# Altium schematic symbol library AliPadash.SchLib: 1117 symbols (part 3 of 6)
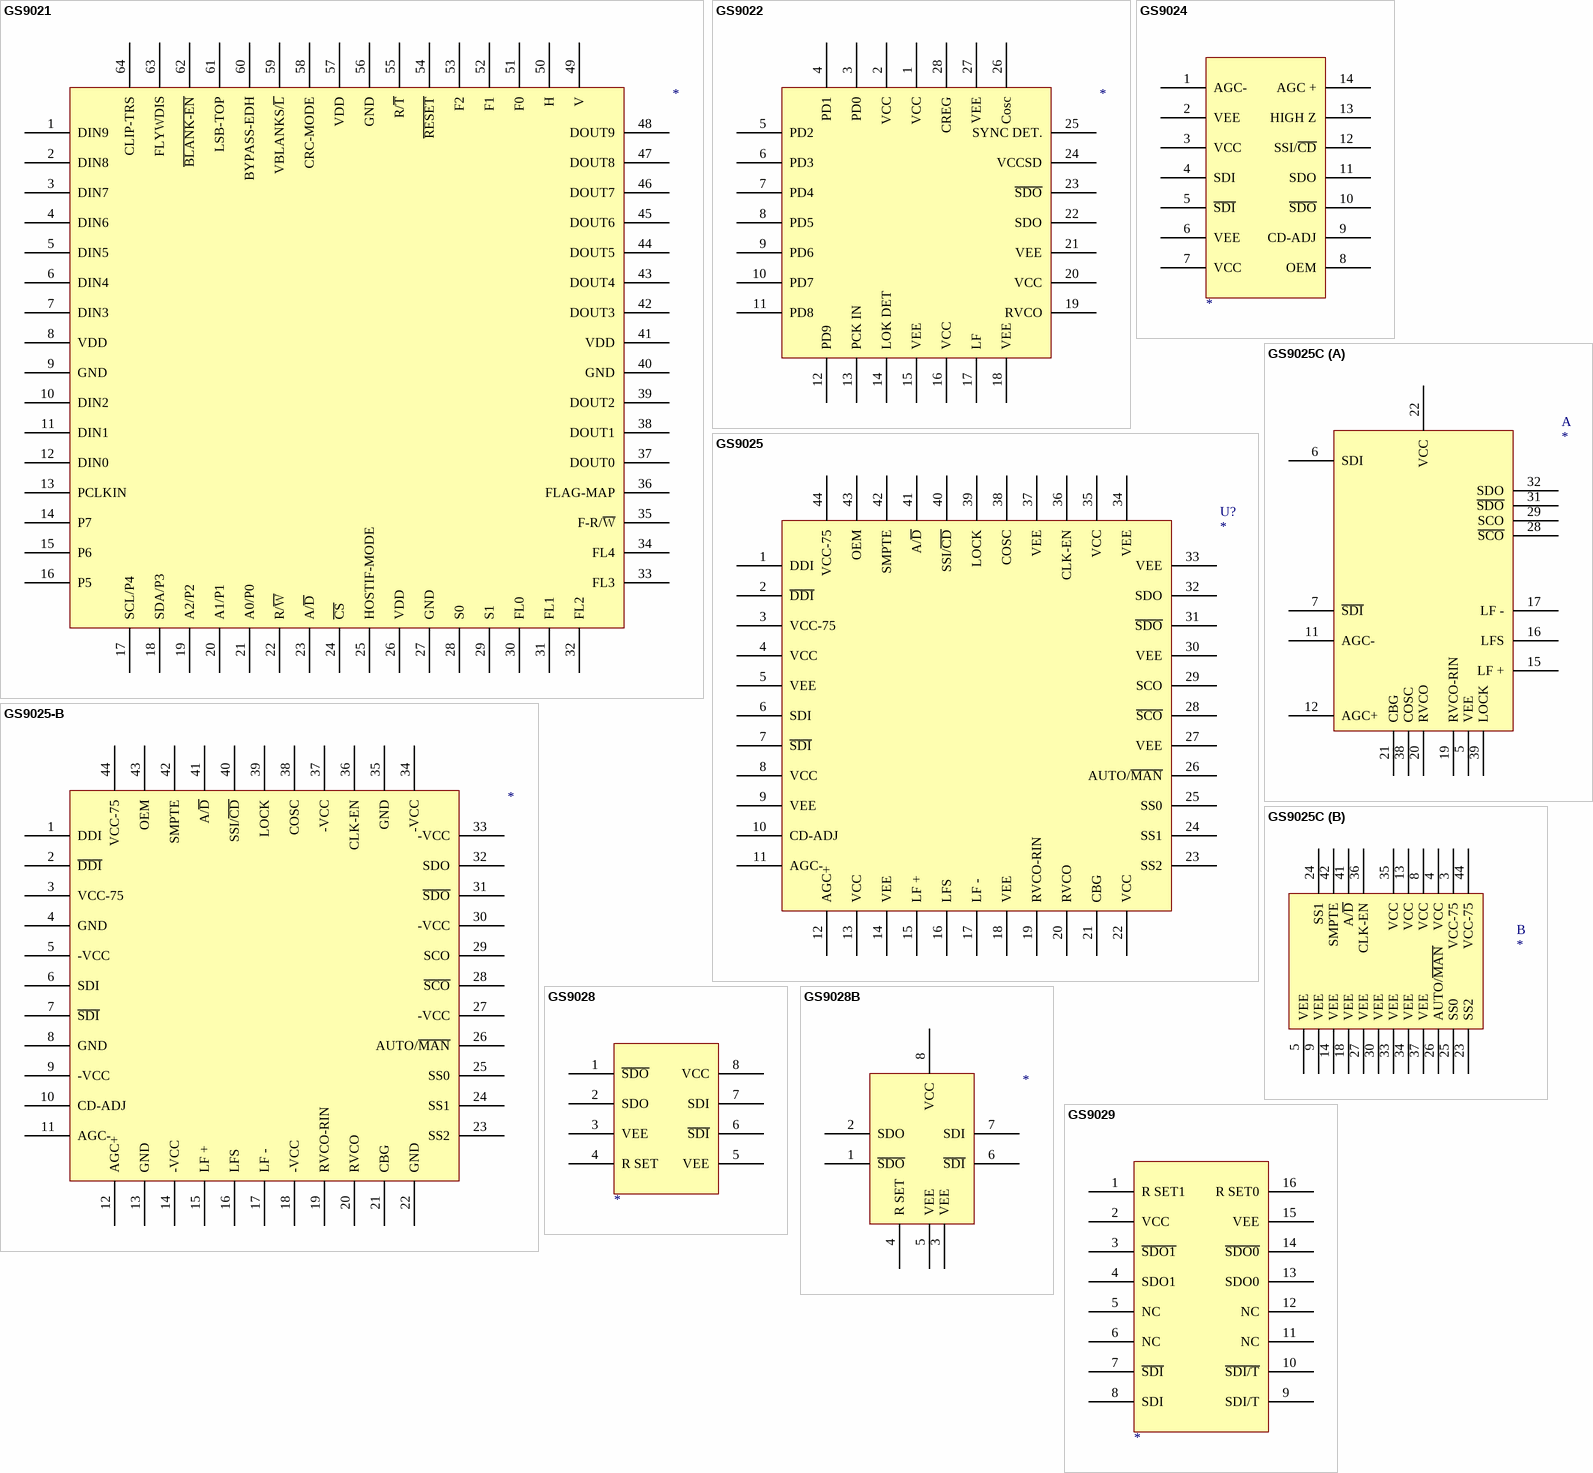
[diagram p85: symbols GS9021 to GS9029]

## GS9021
designator ?
U?
footprint LQFP64
pins: 1 DIN9, 2 DIN8, 3 DIN7, 4 DIN6, 5 DIN5, 6 DIN4, 7 DIN3, 8 VDD (power), 9 GND (power), 10 DIN2, 11 DIN1, 12 DIN0, 13 PCLKIN, 14 P7, 15 P6, 16 P5, 17 SCL/P4, 18 SDA/P3, 19 A2/P2, 20 A1/P1, 21 A0/P0, 22 R/~{W}, 23 A/~{D}, 24 ~{CS}, 25 HOSTIF-MODE, 26 VDD (power), 27 GND (power), 28 S0, 29 S1, 30 FL0, 31 FL1, 32 FL2, 33 FL3, 34 FL4, 35 F-R/~{W}, 36 FLAG-MAP, 37 DOUT0, 38 DOUT1, 39 DOUT2, 40 GND (power), 41 VDD (power), 42 DOUT3, 43 DOUT4, 44 DOUT5, 45 DOUT6, 46 DOUT7, 47 DOUT8, 48 DOUT9, 49 V, 50 H, 51 F0, 52 F1, 53 F2, 54 ~{RESET}, 55 R/~{T}, 56 GND (power), 57 VDD (power), 58 CRC-MODE, 59 VBLANKS/~{L}, 60 BYPASS-EDH, 61 LSB-TOP, 62 ~{BLANK-EN}, 63 FLYWDIS, 64 CLIP-TRS

## GS9022
designator ?
U?
footprint PLCC28
pins: 1 VCC (power), 2 VCC (power), 3 PD0, 4 PD1, 5 PD2, 6 PD3, 7 PD4, 8 PD5, 9 PD6, 10 PD7, 11 PD8, 12 PD9, 13 PCK IN, 14 LOK DET, 15 VEE (power), 16 VCC (power), 17 LF, 18 VEE (power), 19 RVCO, 20 VCC (power), 21 VEE (power), 22 SDO, 23 ~{SDO}, 24 VCCSD, 25 SYNC DET., 26 Cosc, 27 VEE (power), 28 CREG

## GS9024
designator ?
U?
pins: 1 AGC-, 2 VEE, 3 VCC (power), 4 SDI, 5 ~{SDI}, 6 VEE, 7 VCC (power), 8 OEM, 9 CD-ADJ, 10 ~{SDO}, 11 SDO, 12 SSI/~{CD}, 13 HIGH Z, 14 AGC +

## GS9025
designator U?
footprint LQFP44
pins: 1 DDI, 2 ~{DDI}, 3 VCC-75, 4 VCC (power), 5 VEE (power), 6 SDI, 7 ~{SDI}, 8 VCC (power), 9 VEE (power), 10 CD-ADJ, 11 AGC-, 12 AGC+, 13 VCC (power), 14 VEE (power), 15 LF +, 16 LFS, 17 LF -, 18 VEE (power), 19 RVCO-RIN, 20 RVCO, 21 CBG, 22 VCC (power), 23 SS2, 24 SS1, 25 SS0, 26 AUTO/~{MAN}, 27 VEE (power), 28 ~{SCO}, 29 SCO, 30 VEE (power), 31 ~{SDO}, 32 SDO, 33 VEE (power), 34 VEE (power), 35 VCC (power), 36 CLK-EN, 37 VEE (power), 38 COSC, 39 LOCK, 40 SSI/~{CD}, 41 A/~{D}, 42 SMPTE, 43 OEM, 44 VCC-75

## GS9025-B
designator ?
pins: 1 DDI, 2 ~{DDI}, 3 VCC-75, 4 GND (power), 5 -VCC (power), 6 SDI, 7 ~{SDI}, 8 GND (power), 9 -VCC (power), 10 CD-ADJ, 11 AGC-, 12 AGC+, 13 GND (power), 14 -VCC (power), 15 LF +, 16 LFS, 17 LF -, 18 -VCC (power), 19 RVCO-RIN, 20 RVCO, 21 CBG, 22 GND (power), 23 SS2, 24 SS1, 25 SS0, 26 AUTO/~{MAN}, 27 -VCC (power), 28 ~{SCO}, 29 SCO, 30 -VCC (power), 31 ~{SDO}, 32 SDO, 33 -VCC (power), 34 -VCC (power), 35 GND (power), 36 CLK-EN, 37 -VCC (power), 38 COSC, 39 LOCK, 40 SSI/~{CD}, 41 A/~{D}, 42 SMPTE, 43 OEM, 44 VCC-75

## GS9025C
designator ?
part A pins: 5 VEE (power), 6 SDI, 7 ~{SDI}, 11 AGC-, 12 AGC+, 15 LF +, 16 LFS, 17 LF -, 19 RVCO-RIN, 20 RVCO, 21 CBG, 22 VCC (power), 28 ~{SCO}, 29 SCO, 31 ~{SDO}, 32 SDO, 38 COSC, 39 LOCK
part B pins: 3 VCC-75, 4 VCC (power), 5 VEE (power), 8 VCC (power), 9 VEE (power), 13 VCC (power), 14 VEE (power), 18 VEE (power), 23 SS2, 24 SS1, 25 SS0, 26 AUTO/~{MAN}, 27 VEE (power), 30 VEE (power), 33 VEE (power), 34 VEE (power), 35 VCC (power), 36 CLK-EN, 37 VEE (power), 41 A/~{D}, 42 SMPTE, 44 VCC-75

## GS9028
designator ?
U?
pins: 1 ~{SDO}, 2 SDO, 3 VEE (power), 4 R SET, 5 VEE (power), 6 ~{SDI}, 7 SDI, 8 VCC (power)

## GS9028B
designator ?
U?
pins: 1 ~{SDO}, 2 SDO, 3 VEE (power), 4 R SET, 5 VEE (power), 6 ~{SDI}, 7 SDI, 8 VCC (power)

## GS9029
designator ?
U?
pins: 1 R SET1, 2 VCC (power), 3 ~{SDO1}, 4 SDO1, 5 NC, 6 NC, 7 ~{SDI}, 8 SDI, 9 SDI/T, 10 ~{SDI/T}, 11 NC, 12 NC, 13 SDO0, 14 ~{SDO0}, 15 VEE (power), 16 R SET0

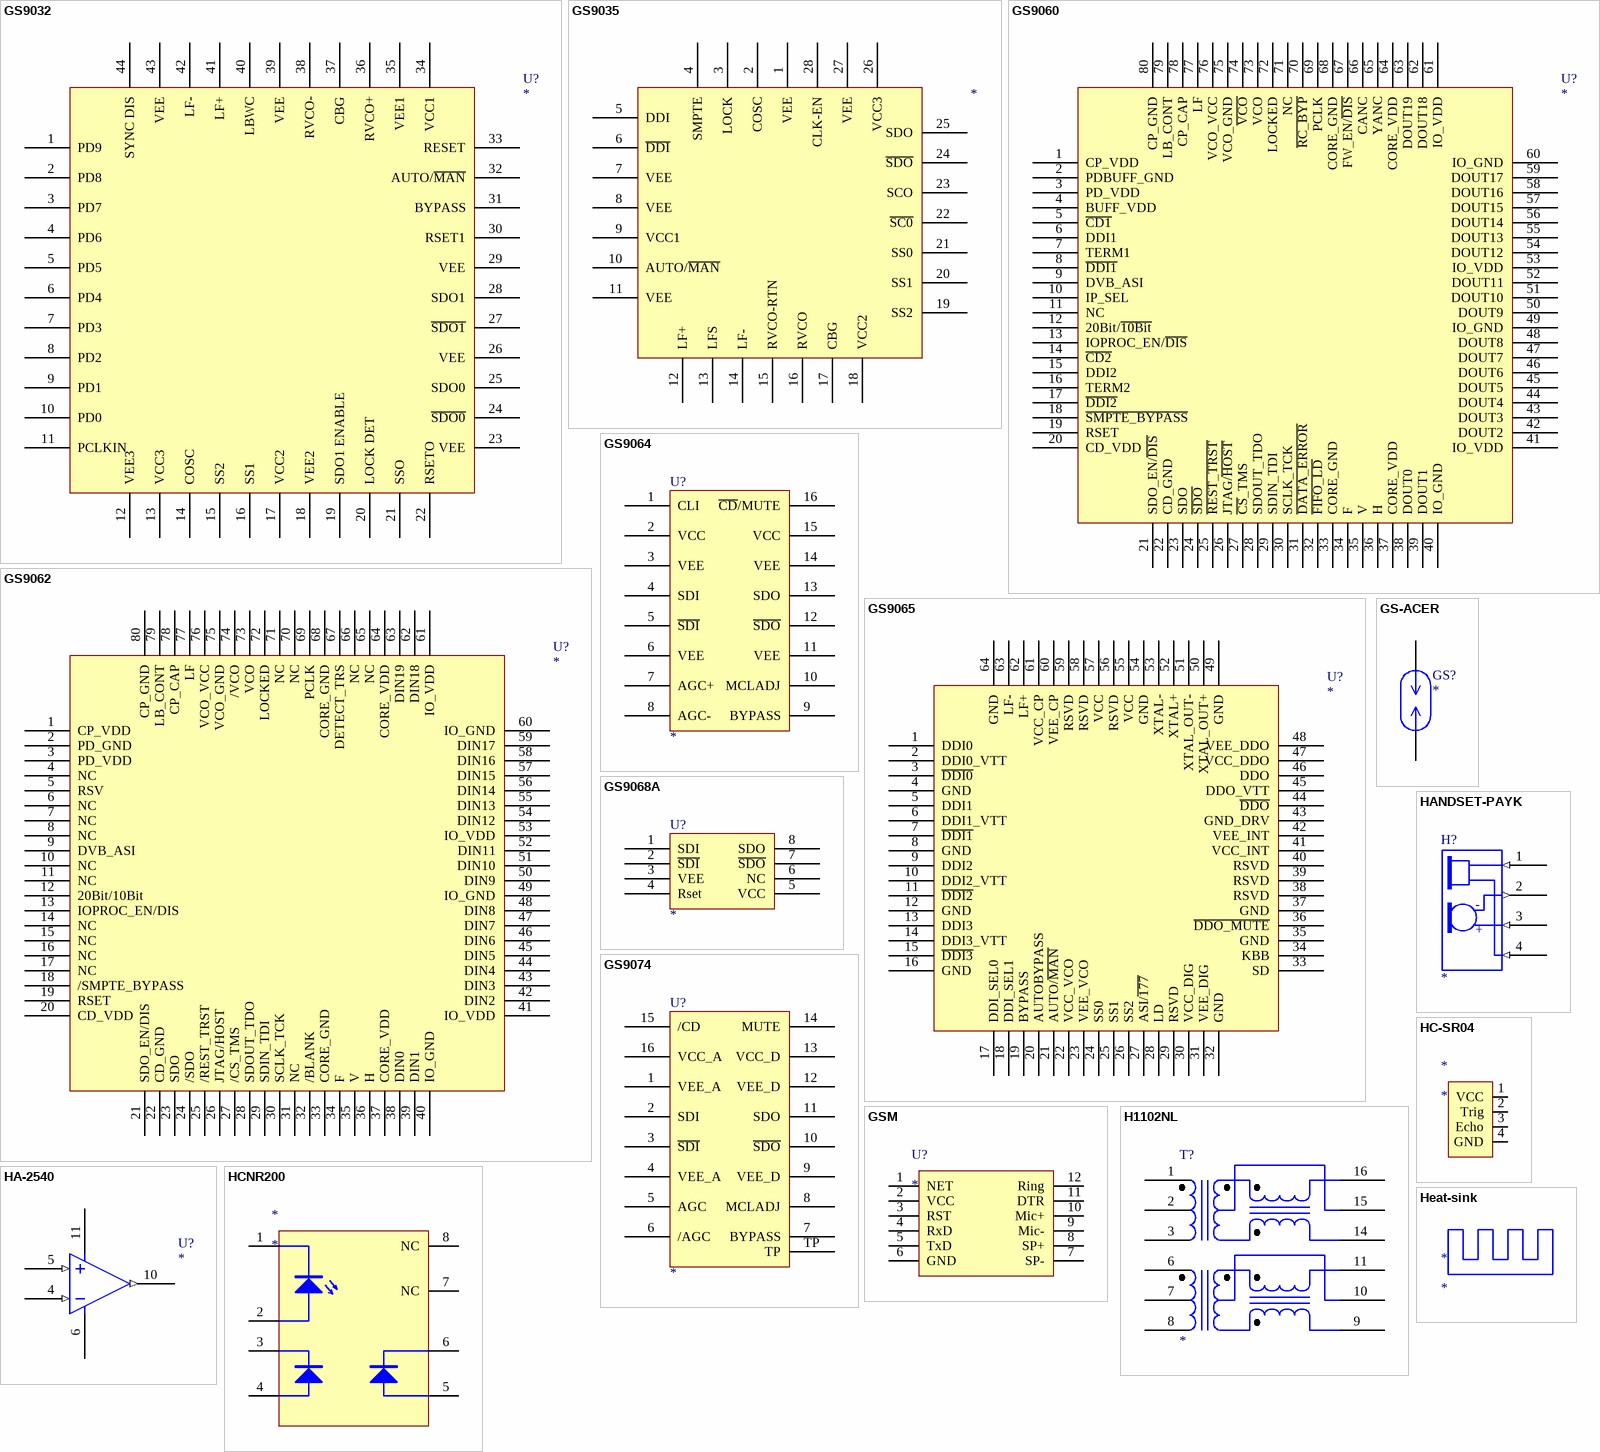
[diagram p29: symbols GS9032 to Heat-sink]

## GS9032
designator U?
footprint TQFP44
pins: 1 PD9, 2 PD8, 3 PD7, 4 PD6, 5 PD5, 6 PD4, 7 PD3, 8 PD2, 9 PD1, 10 PD0, 11 PCLKIN, 12 VEE3, 13 VCC3, 14 COSC, 15 SS2, 16 SS1, 17 VCC2 (power), 18 VEE2, 19 SDO1 ENABLE, 20 LOCK DET, 21 SSO, 22 RSETO, 23 VEE, 24 ~{SDO0}, 25 SDO0, 26 VEE, 27 ~{SDO1}, 28 SDO1, 29 VEE, 30 RSET1, 31 BYPASS, 32 AUTO/~{MAN}, 33 RESET, 34 VCC1 (power), 35 VEE1, 36 RVCO+, 37 CBG, 38 RVCO-, 39 VEE, 40 LBWC, 41 LF+, 42 LF-, 43 VEE, 44 SYNC DIS

## GS9035
designator ?
U?
pins: 1 VEE (power), 2 COSC, 3 LOCK, 4 SMPTE, 5 DDI, 6 ~{DDI}, 7 VEE (power), 8 VEE (power), 9 VCC1, 10 AUTO/~{MAN}, 11 VEE (power), 12 LF+, 13 LFS, 14 LF-, 15 RVCO-RTN, 16 RVCO, 17 CBG, 18 VCC2 (power), 19 SS2, 20 SS1, 21 SS0, 22 ~{SC0}, 23 SCO, 24 ~{SDO}, 25 SDO, 26 VCC3, 27 VEE (power), 28 CLK-EN

## GS9060
designator U?
footprint LQFP80B
pins: 1 CP_VDD, 2 PDBUFF_GND, 3 PD_VDD, 4 BUFF_VDD, 5 ~{CD1}, 6 DDI1, 7 TERM1, 8 ~{DDI1}, 9 DVB_ASI, 10 IP_SEL, 11 NC, 12 20Bit/~{10Bit}, 13 IOPROC_EN/~{DIS}, 14 ~{CD2}, 15 DDI2, 16 TERM2, 17 ~{DDI2}, 18 ~{SMPTE_BYPASS}, 19 RSET, 20 CD_VDD, 21 SDO_EN/~{DIS}, 22 CD_GND, 23 SDO, 24 ~{SDO}, 25 ~{REST_TRST}, 26 JTAG/~{HOST}, 27 ~{CS}_TMS, 28 SDOUT_TDO, 29 SDIN_TDI, 30 SCLK_TCK, 31 ~{DATA_ERROR}, 32 ~{FIFO_LD}, 33 CORE_GND, 34 F, 35 V, 36 H, 37 CORE_VDD, 38 DOUT0, 39 DOUT1, 40 IO_GND, 41 IO_VDD, 42 DOUT2, 43 DOUT3, 44 DOUT4, 45 DOUT5, 46 DOUT6, 47 DOUT7, 48 DOUT8, 49 IO_GND, 50 DOUT9, 51 DOUT10, 52 DOUT11, 53 IO_VDD, 54 DOUT12, 55 DOUT13, 56 DOUT14, 57 DOUT15, 58 DOUT16, 59 DOUT17, 60 IO_GND, 61 IO_VDD, 62 DOUT18, 63 DOUT19, 64 CORE_VDD, 65 YANC, 66 CANC, 67 FW_EN/~{DIS}, 68 CORE_GND, 69 PCLK, 70 ~{RC_BYP}, 71 NC, 72 LOCKED, 73 VCO, 74 ~{VCO}, 75 VCO_GND, 76 VCO_VCC, 77 LF, 78 CP_CAP, 79 LB_CONT, 80 CP_GND

## GS9062
designator U?
footprint LQFP80B
pins: 1 CP_VDD, 2 PD_GND, 3 PD_VDD, 4 NC, 5 RSV, 6 NC, 7 NC, 8 NC, 9 DVB_ASI, 10 NC, 11 NC, 12 20Bit/10Bit, 13 IOPROC_EN/DIS, 14 NC, 15 NC, 16 NC, 17 NC, 18 /SMPTE_BYPASS, 19 RSET, 20 CD_VDD, 21 SDO_EN/DIS, 22 CD_GND, 23 SDO, 24 /SDO, 25 /REST_TRST, 26 JTAG/HOST, 27 /CS_TMS, 28 SDOUT_TDO, 29 SDIN_TDI, 30 SCLK_TCK, 31 NC, 32 /BLANK, 33 CORE_GND, 34 F, 35 V, 36 H, 37 CORE_VDD, 38 DIN0, 39 DIN1, 40 IO_GND, 41 IO_VDD, 42 DIN2, 43 DIN3, 44 DIN4, 45 DIN5, 46 DIN6, 47 DIN7, 48 DIN8, 49 IO_GND, 50 DIN9, 51 DIN10, 52 DIN11, 53 IO_VDD, 54 DIN12, 55 DIN13, 56 DIN14, 57 DIN15, 58 DIN16, 59 DIN17, 60 IO_GND, 61 IO_VDD, 62 DIN18, 63 DIN19, 64 CORE_VDD, 65 NC, 66 NC, 67 DETECT_TRS, 68 CORE_GND, 69 PCLK, 70 NC, 71 NC, 72 LOCKED, 73 VCO, 74 /VCO, 75 VCO_GND, 76 VCO_VCC, 77 LF, 78 CP_CAP, 79 LB_CONT, 80 CP_GND

## GS9064
designator U?
footprint SO-16
pins: 1 CLI, 2 VCC, 3 VEE, 4 SDI, 5 ~{SDI}, 6 VEE, 7 AGC+, 8 AGC-, 9 BYPASS, 10 MCLADJ, 11 VEE, 12 ~{SDO}, 13 SDO, 14 VEE, 15 VCC, 16 ~{CD}/MUTE

## GS9065
designator U?
footprint ST-64B
pins: 1 DDI0, 2 DDI0_VTT, 3 ~{DDI0}, 4 GND, 5 DDI1, 6 DDI1_VTT, 7 ~{DDI1}, 8 GND, 9 DDI2, 10 DDI2_VTT, 11 ~{DDI2}, 12 GND, 13 DDI3, 14 DDI3_VTT, 15 ~{DDI3}, 16 GND, 17 DDI_SEL0, 18 DDI_SEL1, 19 BYPASS, 20 AUTOBYPASS, 21 AUTO/~{MAN}, 22 VCC_VCO, 23 VEE_VCO, 24 SS0, 25 SS1, 26 SS2, 27 ASI/~{177}, 28 LD, 29 RSVD, 30 VCC_DIG, 31 VEE_DIG, 32 GND, 33 SD, 34 KBB, 35 GND, 36 ~{DDO_MUTE}, 37 GND, 38 RSVD, 39 RSVD, 40 RSVD, 41 VCC_INT, 42 VEE_INT, 43 GND_DRV, 44 ~{DDO}, 45 DDO_VTT, 46 DDO, 47 VCC_DDO, 48 VEE_DDO, 49 GND, 50 XTAL_OUT+, 51 XTAL_OUT-, 52 XTAL+, 53 XTAL-, 54 GND, 55 VCC, 56 RSVD, 57 VCC, 58 RSVD, 59 RSVD, 60 VEE_CP, 61 VCC_CP, 62 LF+, 63 LF-, 64 GND

## GS9068A
designator U?
footprint SO-8
pins: 1 SDI, 2 ~{SDI}, 3 VEE, 4 Rset, 5 VCC, 6 NC, 7 ~{SDO}, 8 SDO

## GS9074
designator U?
footprint QFN16
pins: 1 VEE_A, 2 SDI, 3 ~{SDI}, 4 VEE_A, 5 AGC, 6 /AGC, 7 BYPASS, 8 MCLADJ, 9 VEE_D, 10 ~{SDO}, 11 SDO, 12 VEE_D, 13 VCC_D, 14 MUTE, 15 /CD, 16 VCC_A, TP

## GS-ACER
designator GS?
pins: 1, 2

## GSM
designator U?
pins: 1 NET, 2 VCC, 3 RST, 4 RxD, 5 TxD, 6 GND, 7 SP-, 8 SP+, 9 Mic-, 10 Mic+, 11 DTR, 12 Ring

## H1102NL
designator T?
footprint 10-100TRANS
pins: 1, 2, 3, 6, 7, 8, 9, 10, 11, 14, 15, 16

## HA-2540
designator U?
pins: 4 -IN (in), 5 +IN (in), 6 V-, 10 OUT (out), 11 V+

## HANDSET-PAYK
designator H?
pins: 1 SPK1 (in), 2 -MIC (out), 3 +MIC (in), 4 SPK2 (in)
text: -; +

## HC-SR04
designator *
pins: 1 VCC, 2 Trig, 3 Echo, 4 GND

## HCNR200
designator *
footprint so-8-big (Footprint not found)
pins: 1, 2, 3, 4, 5, 6, 7 NC, 8 NC

## Heat-sink
designator *

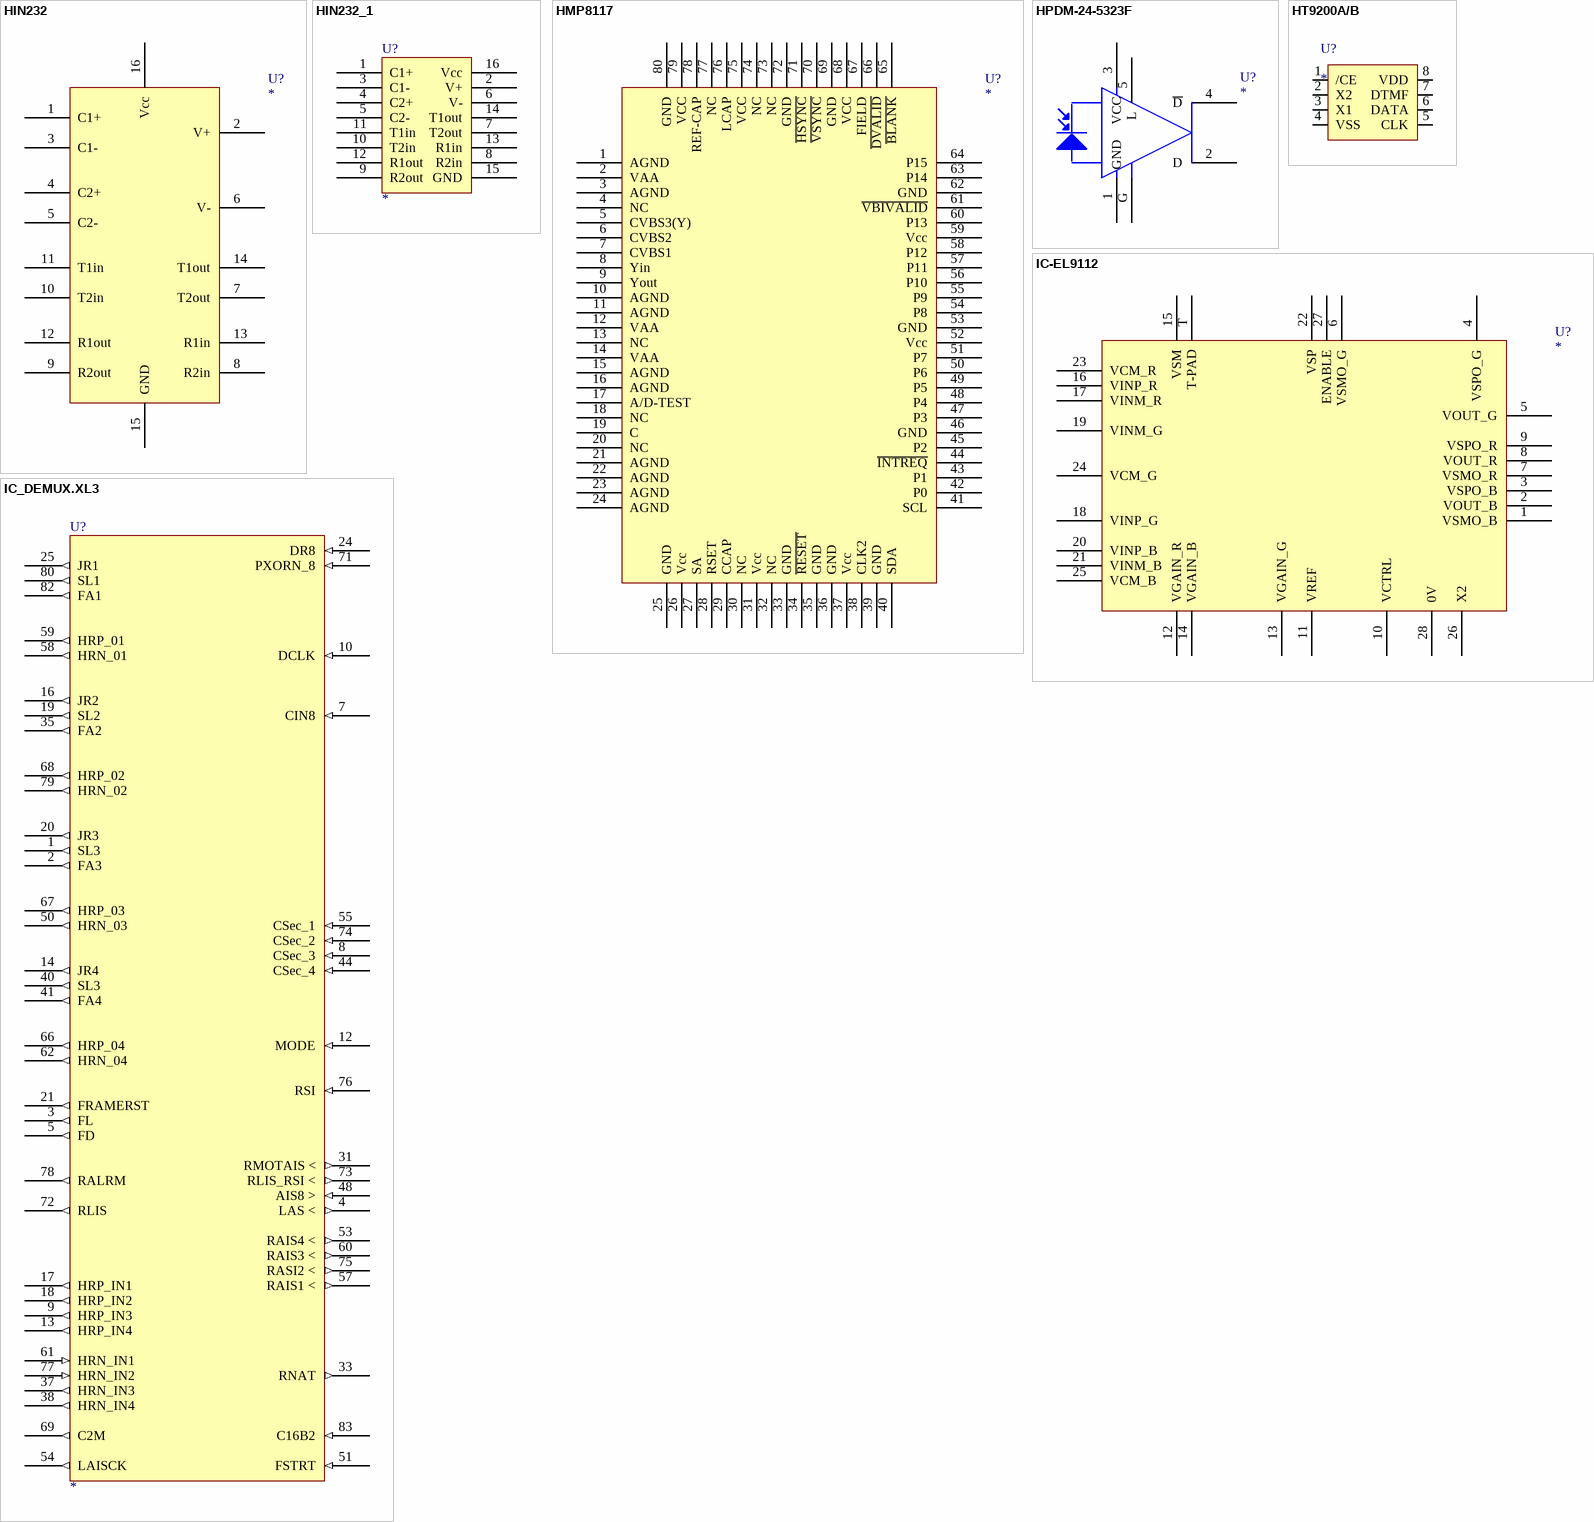
[diagram p30: symbols HIN232 to IC_DEMUX.XL3]

## HIN232
designator U?
footprint DIP16
pins: 1 C1+, 2 V+, 3 C1-, 4 C2+, 5 C2-, 6 V-, 7 T2out, 8 R2in, 9 R2out, 10 T2in, 11 T1in, 12 R1out, 13 R1in, 14 T1out, 15 GND, 16 Vcc

## HIN232_1
designator U?
footprint DIP16
pins: 1 C1+, 2 V+, 3 C1-, 4 C2+, 5 C2-, 6 V-, 7 T2out, 8 R2in, 9 R2out, 10 T2in, 11 T1in, 12 R1out, 13 R1in, 14 T1out, 15 GND, 16 Vcc

## HMP8117
designator U?
footprint MQFP80
pins: 1 AGND, 2 VAA, 3 AGND, 4 NC, 5 CVBS3(Y), 6 CVBS2, 7 CVBS1, 8 Yin, 9 Yout, 10 AGND, 11 AGND, 12 VAA, 13 NC, 14 VAA, 15 AGND, 16 AGND, 17 A/D-TEST, 18 NC, 19 C, 20 NC, 21 AGND, 22 AGND, 23 AGND, 24 AGND, 25 GND, 26 Vcc, 27 SA, 28 RSET, 29 CCAP, 30 NC, 31 Vcc, 32 NC, 33 GND, 34 ~{RESET}, 35 GND, 36 GND, 37 Vcc, 38 CLK2, 39 GND, 40 SDA, 41 SCL, 42 P0, 43 P1, 44 ~{INTREQ}, 45 P2, 46 GND, 47 P3, 48 P4, 49 P5, 50 P6, 51 P7, 52 Vcc, 53 GND, 54 P8, 55 P9, 56 P10, 57 P11, 58 P12, 59 Vcc, 60 P13, 61 ~{VBIVALID}, 62 GND, 63 P14, 64 P15, 65 ~{BLANK}, 66 ~{DVALID}, 67 FIELD, 68 VCC, 69 GND, 70 ~{VSYNC}, 71 ~{HSYNC}, 72 GND, 73 NC, 74 NC, 75 VCC, 76 LCAP, 77 NC, 78 REF-CAP, 79 VCC, 80 GND

## HPDM-24-5323F
designator U?
footprint LDHP3
pins: 1 GND, 2 D, 3 VCC, 4 ~{D}, 5 L, G

## HT9200A/B
designator U?
footprint DIP8-SMD
pins: 1 /CE, 2 X2, 3 X1, 4 VSS, 5 CLK, 6 DATA, 7 DTMF, 8 VDD

## IC-EL9112
designator U?
footprint QFN28
pins: 1 VSMO_B, 2 VOUT_B, 3 VSPO_B, 4 VSPO_G, 5 VOUT_G, 6 VSMO_G, 7 VSMO_R, 8 VOUT_R, 9 VSPO_R, 10 VCTRL, 11 VREF, 12 VGAIN_R, 13 VGAIN_G, 14 VGAIN_B, 15 VSM, 16 VINP_R, 17 VINM_R, 18 VINP_G, 19 VINM_G, 20 VINP_B, 21 VINM_B, 22 VSP, 23 VCM_R, 24 VCM_G, 25 VCM_B, 26 X2, 27 ENABLE, 28 0V, T T-PAD

## IC_DEMUX.XL3
designator U?
pins: 1 SL3 (out), 2 FA3 (out), 3 FL (out), 4 LAS < (out), 5 FD (out), 6 GND (power) hidden to GND, 7 CIN8 (in), 8 CSec_3 (in), 9 HRP_IN3 (out), 10 DCLK (in), 12 MODE (in), 13 HRP_IN4 (out), 14 JR4 (out), 16 JR2 (out), 17 HRP_IN1 (out), 18 HRP_IN2 (out), 19 SL2 (out), 20 JR3 (out), 21 FRAMERST (out), 22 VCC (power) hidden to VCC, 24 DR8 (in), 25 JR1 (out), 28 GND (power) hidden to GND, 31 RMOTAIS < (out), 33 RNAT (out), 35 FA2 (out), 37 HRN_IN3 (out), 38 HRN_IN4 (out), 40 SL3 (out), 41 FA4 (out), 43 VCC (power) hidden to VCC, 44 CSec_4 (in), 48 AIS8 > (in), 49 GND (power) hidden to GND, 50 HRN_03 (out), 51 FSTRT (in), 53 RAIS4 < (out), 54 LAISCK (out), 55 CSec_1 (in), 57 RAIS1 < (out), 58 HRN_01 (out), 59 HRP_01 (out), 60 RAIS3 < (out), 61 HRN_IN1 (in), 62 HRN_04 (out), 65 VCC (power) hidden to VCC, 66 HRP_04 (out), 67 HRP_03 (out), 68 HRP_02 (out), 69 C2M (out), 70 GND (power) hidden to GND, 71 PXORN_8 (in), 72 RLIS (out), 73 RLIS_RSI < (out), 74 CSec_2 (in), 75 RASI2 < (out), 76 RSI (in), 77 HRN_IN2 (in), 78 RALRM (out), 79 HRN_02 (out), 80 SL1 (out), 82 FA1 (out), 83 C16B2 (in), 84 VCC (power) hidden to VCC

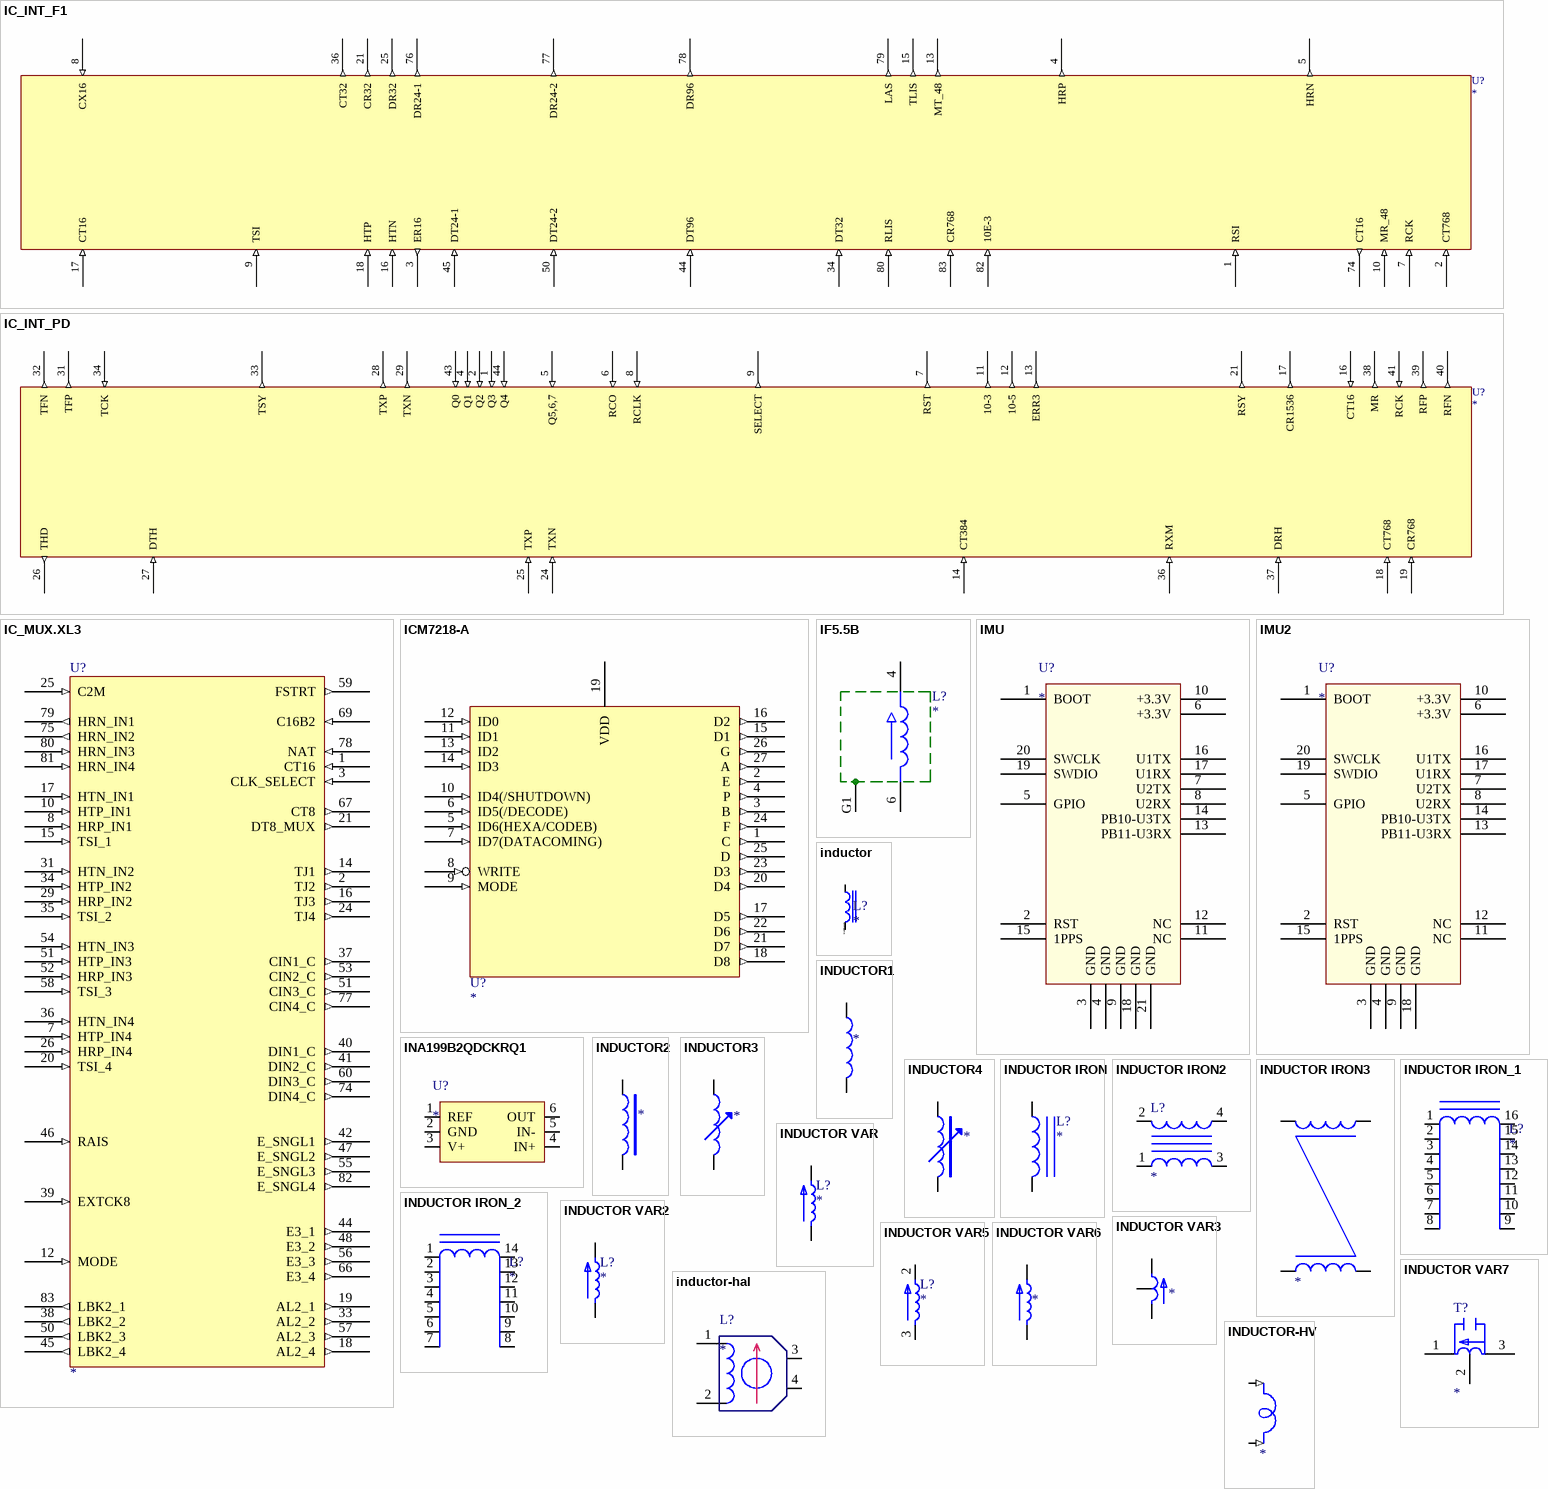
[diagram p31: symbols IC_INT_F1 to INDUCTOR-HV]

## IC_INT_F1
designator U?
pins: 1 RSI (in), 2 CT768 (in), 3 ER16 (out), 4 HRP (out), 5 HRN (out), 7 RCK (in), 8 CX16 (in), 9 TSI (in), 10 MR_48 (in), 13 MT_48 (out), 15 TLIS (out), 16 HTN (in), 17 CT16 (in), 18 HTP (in), 21 CR32 (out), 25 DR32 (out), 34 DT32 (in), 36 CT32 (out), 44 DT96 (in), 45 DT24-1 (in), 50 DT24-2 (in), 74 CT16 (out), 76 DR24-1 (out), 77 DR24-2 (out), 78 DR96 (out), 79 LAS (out), 80 RLIS (in), 82 10E-3 (in), 83 CR768 (in)

## IC_INT_PD
designator U?
pins: 1 Q3 (in), 2 Q2 (in), 4 Q1 (in), 5 Q5,6,7 (in), 6 RCO (in), 7 RST (out), 8 RCLK (in), 9 SELECT (out), 11 10-3 (out), 12 10-5 (out), 13 ERR3 (out), 14 CT384 (in), 16 CT16 (in), 17 CR1536 (out), 18 CT768 (in), 19 CR768 (in), 21 RSY (out), 24 TXN (in), 25 TXP (in), 26 THD (out), 27 DTH (in), 28 TXP (out), 29 TXN (out), 31 TFP (out), 32 TFN (out), 33 TSY (out), 34 TCK (in), 36 RXM (in), 37 DRH (in), 38 MR (out), 39 RFP (out), 40 RFN (out), 41 RCK (in), 43 Q0 (in), 44 Q4 (in)

## IC_MUX.XL3
designator U?
pins: 1 CT16 (in), 2 TJ2 (out), 3 CLK_SELECT (in), 6 GND (power) hidden to GND, 7 HTP_IN4 (in), 8 HRP_IN1 (in), 10 HTP_IN1 (in), 12 MODE (in), 14 TJ1 (out), 15 TSI_1 (in), 16 TJ3 (out), 17 HTN_IN1 (in), 18 AL2_4 (out), 19 AL2_1 (out), 20 TSI_4 (in), 21 DT8_MUX (out), 22 VCC (power) hidden to VCC, 24 TJ4 (out), 25 C2M (in), 26 HRP_IN4 (in), 28 GND (power) hidden to GND, 29 HRP_IN2 (in), 31 HTN_IN2 (in), 33 AL2_2 (out), 34 HTP_IN2 (in), 35 TSI_2 (in), 36 HTN_IN4 (in), 37 CIN1_C (out), 38 LBK2_2 (out), 39 EXTCK8 (in), 40 DIN1_C (out), 41 DIN2_C (out), 42 E_SNGL1 (out), 43 VCC (power) hidden to VCC, 44 E3_1 (out), 45 LBK2_4 (out), 46 RAIS (in), 47 E_SNGL2 (out), 48 E3_2 (out), 49 GND (power) hidden to GND, 50 LBK2_3 (out), 51 HTP_IN3 (in), 51 CIN3_C (out), 52 HRP_IN3 (in), 53 CIN2_C (out), 54 HTN_IN3 (in), 55 E_SNGL3 (out), 56 E3_3 (out), 57 AL2_3 (out), 58 TSI_3 (in), 59 FSTRT (out), 60 DIN3_C (out), 65 VCC (power) hidden to VCC, 66 E3_4 (out), 67 CT8 (out), 69 C16B2 (in), 70 GND (power) hidden to GND, 74 DIN4_C (out), 75 HRN_IN2 (out), 77 CIN4_C (out), 78 NAT (in), 79 HRN_IN1 (out), 80 HRN_IN3 (in), 81 HRN_IN4 (in), 82 E_SNGL4 (out), 83 LBK2_1 (out), 84 VCC (power) hidden to VCC

## ICM7218-A
designator U?
pins: 1 C (out), 2 E (out), 3 B (out), 4 P (out), 5 ID6(HEXA/CODEB) (in), 6 ID5(/DECODE) (in), 7 ID7(DATACOMING) (in), 8 WRITE (in), 9 MODE (in), 10 ID4(/SHUTDOWN) (in), 11 ID1 (in), 12 ID0 (in), 13 ID2 (in), 14 ID3 (in), 15 D1 (out), 16 D2 (out), 17 D5 (out), 18 D8 (out), 19 VDD, 20 D4 (out), 21 D7 (out), 22 D6 (out), 23 D3 (out), 24 F (out), 25 D (out), 26 G (out), 27 A (out), 28 VSS (power) hidden to VSS

## IF5.5B
designator L?
pins: 4, 6, G1 GND

## IMU
designator U?
pins: 1 BOOT, 2 RST, 3 GND, 4 GND, 5 GPIO, 6 +3.3V, 7 U2TX, 8 U2RX, 9 GND, 10 +3.3V, 11 NC, 12 NC, 13 PB11-U3RX, 14 PB10-U3TX, 15 1PPS, 16 U1TX, 17 U1RX, 18 GND, 19 SWDIO, 20 SWCLK, 21 GND

## IMU2
designator U?
pins: 1 BOOT, 2 RST, 3 GND, 4 GND, 5 GPIO, 6 +3.3V, 7 U2TX, 8 U2RX, 9 GND, 10 +3.3V, 11 NC, 12 NC, 13 PB11-U3RX, 14 PB10-U3TX, 15 1PPS, 16 U1TX, 17 U1RX, 18 GND, 19 SWDIO, 20 SWCLK

## INA199B2QDCKRQ1
designator U?
footprint SOT363
pins: 1 REF, 2 GND, 3 V+, 4 IN+, 5 IN-, 6 OUT

## inductor
designator L?
footprint AXIAL0.3
footprint AXIAL0.4
footprint BEAD
pins: 1, 2
text: @DesignPCB

## INDUCTOR1
designator ?
pins: 1, 2

## INDUCTOR2
designator ?
pins: 1, 2

## INDUCTOR3
designator ?
pins: 1, 2

## INDUCTOR4
designator ?
pins: 1, 2

## INDUCTOR IRON
designator L?
pins: 1, 2

## INDUCTOR IRON2
designator L?
pins: 1, 2, 3, 4

## INDUCTOR IRON3
designator ?
pins: 1, 2, 3, 4

## INDUCTOR IRON_1
designator L?
pins: 1, 2, 3, 4, 5, 6, 7, 8, 9, 10, 11, 12, 13, 14, 15, 16

## INDUCTOR IRON_2
designator L?
pins: 1, 2, 3, 4, 5, 6, 7, 8, 9, 10, 11, 12, 13, 14

## INDUCTOR VAR
designator L?
pins: 1, 2

## INDUCTOR VAR2
designator L?
pins: 1, 3

## INDUCTOR VAR3
designator ?
pins: 1, 2, 3

## INDUCTOR VAR5
designator L?
pins: 2, 3

## INDUCTOR VAR6
designator ?
pins: 4, 6

## INDUCTOR VAR7
designator T?
Toko
pins: 1, 2, 3

## inductor-hal
designator L?
footprint tak17
pins: 1, 2, 3, 4

## INDUCTOR-HV
designator ?
pins: 1 (in), 2 (in)

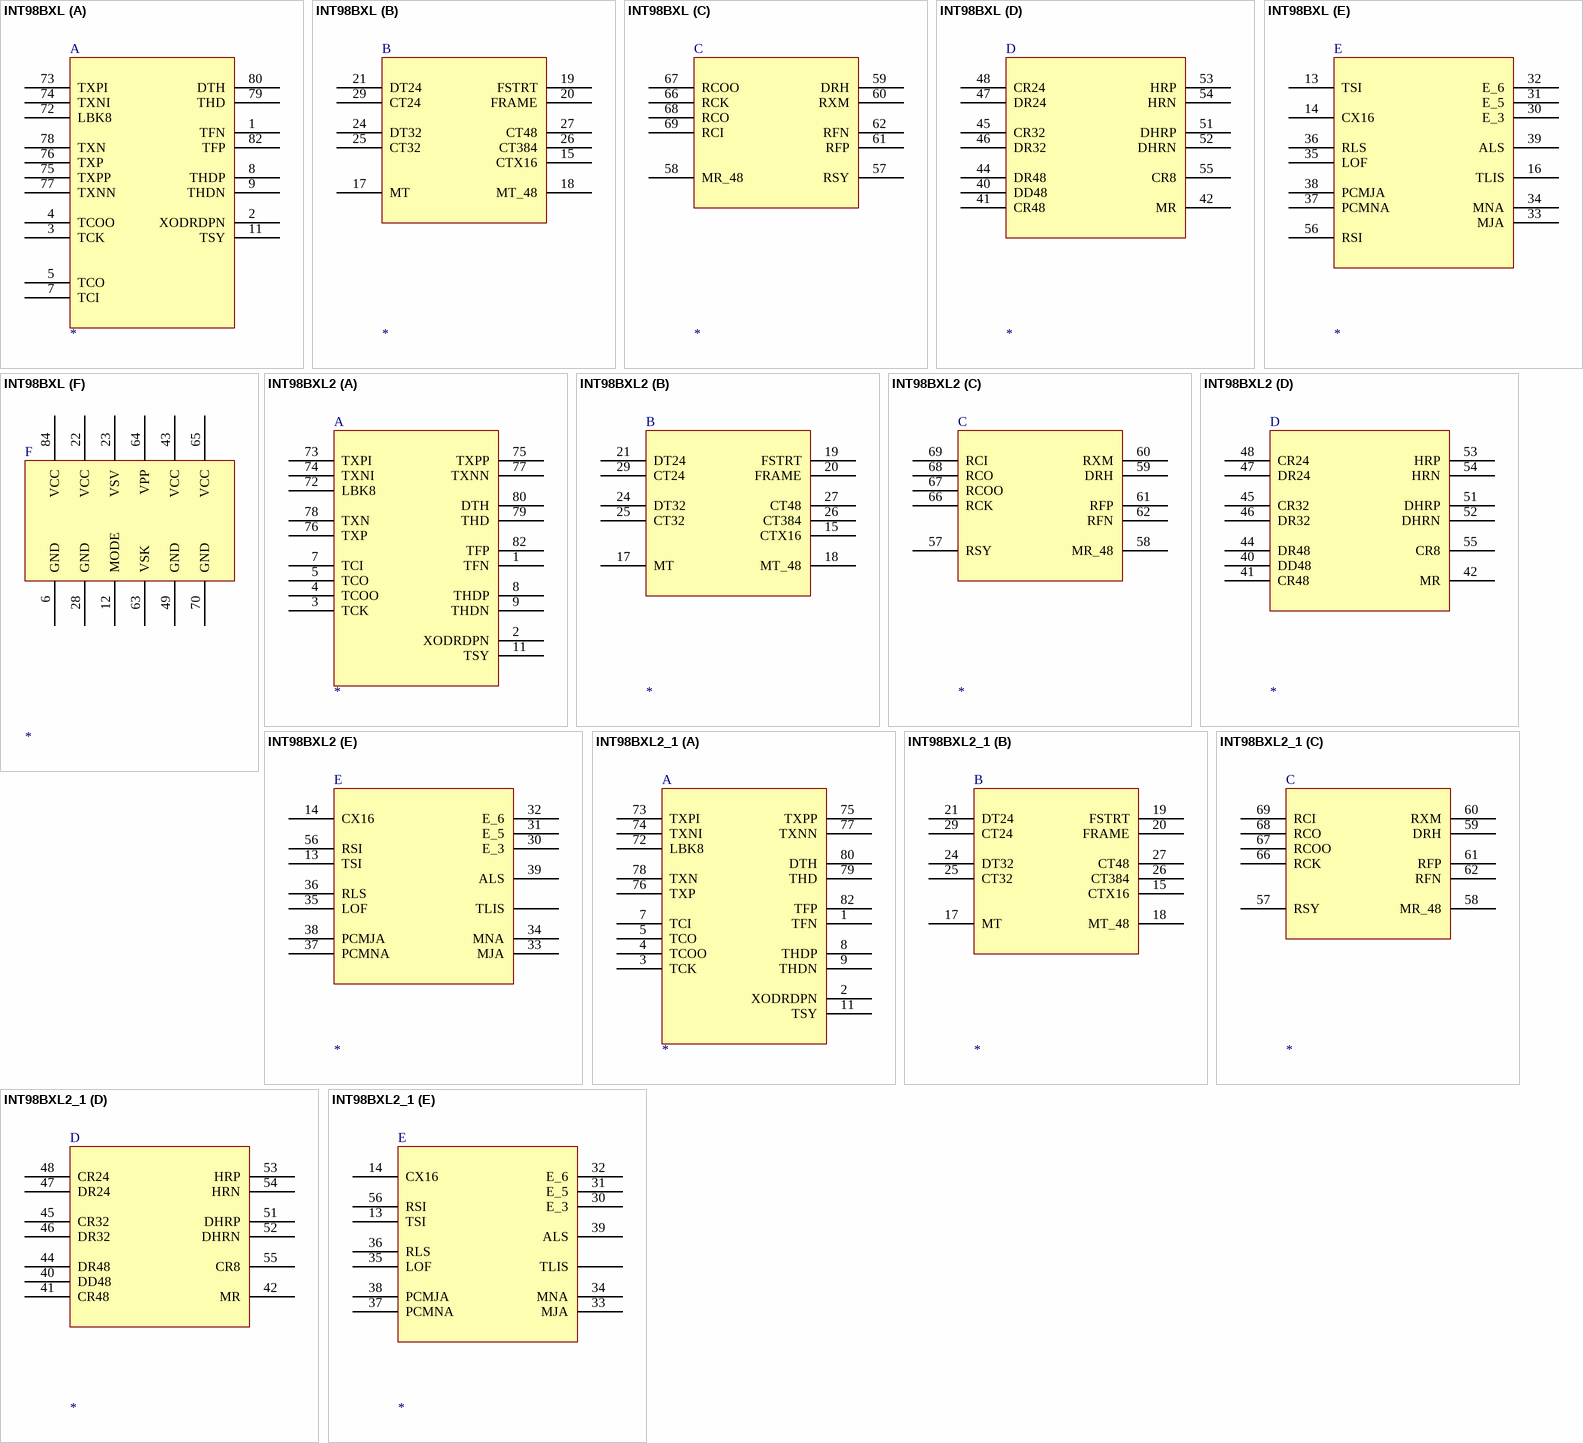
[diagram p32: symbols INT98BXL to INT98BXL2_1]

## INT98BXL
designator ?
part A pins: 1 TFN, 2 XODRDPN, 3 TCK, 4 TCOO, 5 TCO, 7 TCI, 8 THDP, 9 THDN, 11 TSY, 72 LBK8, 73 TXPI, 74 TXNI, 75 TXPP, 76 TXP, 77 TXNN, 78 TXN, 79 THD, 80 DTH, 82 TFP
part B pins: 15 CTX16, 17 MT, 18 MT_48, 19 FSTRT, 20 FRAME, 21 DT24, 24 DT32, 25 CT32, 26 CT384, 27 CT48, 29 CT24
part C pins: 57 RSY, 58 MR_48, 59 DRH, 60 RXM, 61 RFP, 62 RFN, 66 RCK, 67 RCOO, 68 RCO, 69 RCI
part D pins: 40 DD48, 41 CR48, 42 MR, 44 DR48, 45 CR32, 46 DR32, 47 DR24, 48 CR24, 51 DHRP, 52 DHRN, 53 HRP, 54 HRN, 55 CR8
part E pins: 13 TSI, 14 CX16, 16 TLIS, 30 E_3, 31 E_5, 32 E_6, 33 MJA, 34 MNA, 35 LOF, 36 RLS, 37 PCMNA, 38 PCMJA, 39 ALS, 56 RSI
part F pins: 6 GND, 12 MODE, 22 VCC, 23 VSV, 28 GND, 43 VCC, 49 GND, 63 VSK, 64 VPP, 65 VCC, 70 GND, 84 VCC

## INT98BXL2
designator ?
part A pins: 1 TFN, 2 XODRDPN, 3 TCK, 4 TCOO, 5 TCO, 7 TCI, 8 THDP, 9 THDN, 11 TSY, 72 LBK8, 73 TXPI, 74 TXNI, 75 TXPP, 76 TXP, 77 TXNN, 78 TXN, 79 THD, 80 DTH, 82 TFP
part B pins: 15 CTX16, 17 MT, 18 MT_48, 19 FSTRT, 20 FRAME, 21 DT24, 24 DT32, 25 CT32, 26 CT384, 27 CT48, 29 CT24
part C pins: 57 RSY, 58 MR_48, 59 DRH, 60 RXM, 61 RFP, 62 RFN, 66 RCK, 67 RCOO, 68 RCO, 69 RCI
part D pins: 40 DD48, 41 CR48, 42 MR, 44 DR48, 45 CR32, 46 DR32, 47 DR24, 48 CR24, 51 DHRP, 52 DHRN, 53 HRP, 54 HRN, 55 CR8
part E pins: 13 TSI, 14 CX16, 30 E_3, 31 E_5, 32 E_6, 33 MJA, 34 MNA, 35 LOF, 36 RLS, 37 PCMNA, 38 PCMJA, 39 ALS, 56 RSI, ? TLIS

## INT98BXL2_1
designator ?
part A pins: 1 TFN, 2 XODRDPN, 3 TCK, 4 TCOO, 5 TCO, 7 TCI, 8 THDP, 9 THDN, 11 TSY, 72 LBK8, 73 TXPI, 74 TXNI, 75 TXPP, 76 TXP, 77 TXNN, 78 TXN, 79 THD, 80 DTH, 82 TFP
part B pins: 15 CTX16, 17 MT, 18 MT_48, 19 FSTRT, 20 FRAME, 21 DT24, 24 DT32, 25 CT32, 26 CT384, 27 CT48, 29 CT24
part C pins: 57 RSY, 58 MR_48, 59 DRH, 60 RXM, 61 RFP, 62 RFN, 66 RCK, 67 RCOO, 68 RCO, 69 RCI
part D pins: 40 DD48, 41 CR48, 42 MR, 44 DR48, 45 CR32, 46 DR32, 47 DR24, 48 CR24, 51 DHRP, 52 DHRN, 53 HRP, 54 HRN, 55 CR8
part E pins: 13 TSI, 14 CX16, 30 E_3, 31 E_5, 32 E_6, 33 MJA, 34 MNA, 35 LOF, 36 RLS, 37 PCMNA, 38 PCMJA, 39 ALS, 56 RSI, ? TLIS

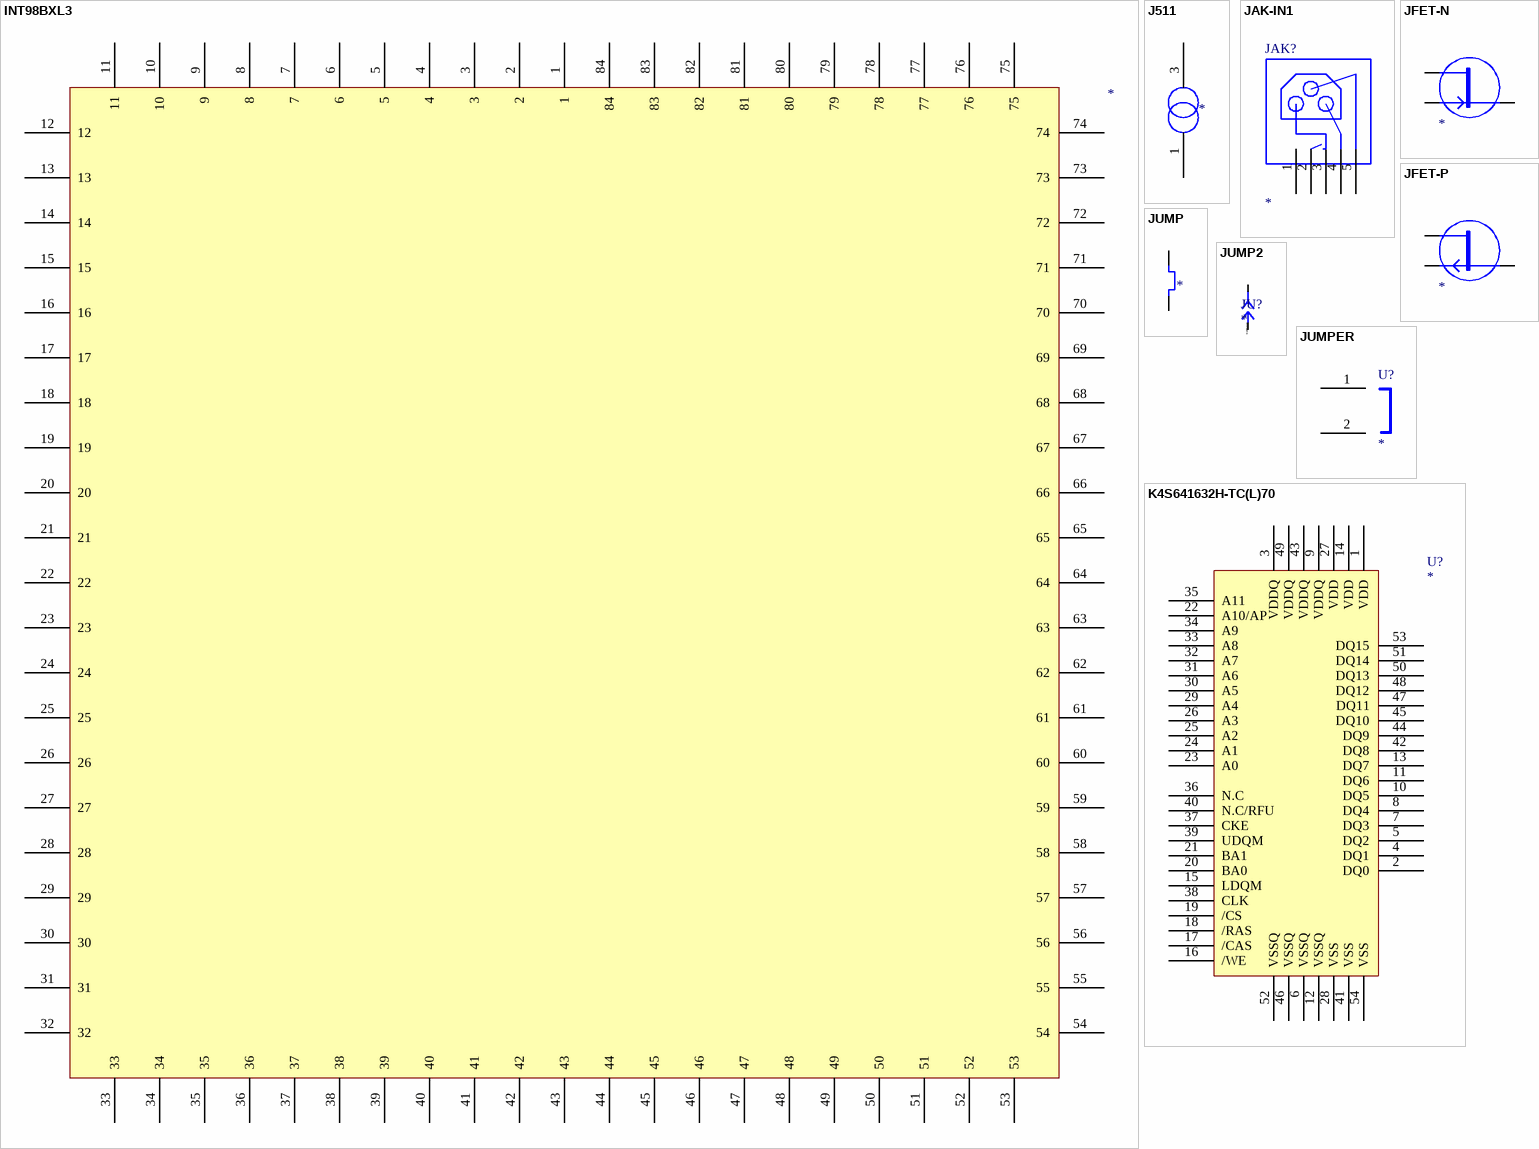
[diagram p33: symbols INT98BXL3 to K4S641632H-TC(L)70]

## INT98BXL3
designator ?
pins: 1, 2, 3, 4, 5, 6, 7, 8, 9, 10, 11, 12, 13, 14, 15, 16, 17, 18, 19, 20, 21, 22, 23, 24, 25, 26, 27, 28, 29, 30, 31, 32, 33, 34, 35, 36, 37, 38, 39, 40, 41, 42, 43, 44, 45, 46, 47, 48, 49, 50, 51, 52, 53, 54, 55, 56, 57, 58, 59, 60, 61, 62, 63, 64, 65, 66, 67, 68, 69, 70, 71, 72, 73, 74, 75, 76, 77, 78, 79, 80, 81, 82, 83, 84

## J511
designator ?
pins: 1, 3

## JAK-IN1
designator JAK?
footprint JAK-PWR1
pins: 1, 2, 3, 4, 5

## JFET-N
designator ?
pins: 1, 2, 3

## JFET-P
designator ?
pins: 1, 2, 3

## JUMP
designator ?
pins: 1, 2

## JUMP2
designator JU?
footprint JUMP4
footprint JUMP2
pins: 1, 2
text: @DesignPCB

## JUMPER
designator U?
footprint RAD0.2
pins: 1, 2

## K4S641632H-TC(L)70
designator U?
footprint TSOP54
pins: 1 VDD, 2 DQ0, 3 VDDQ, 4 DQ1, 5 DQ2, 6 VSSQ, 7 DQ3, 8 DQ4, 9 VDDQ, 10 DQ5, 11 DQ6, 12 VSSQ, 13 DQ7, 14 VDD, 15 LDQM, 16 /WE, 17 /CAS, 18 /RAS, 19 /CS, 20 BA0, 21 BA1, 22 A10/AP, 23 A0, 24 A1, 25 A2, 26 A3, 27 VDD, 28 VSS, 29 A4, 30 A5, 31 A6, 32 A7, 33 A8, 34 A9, 35 A11, 36 N.C, 37 CKE, 38 CLK, 39 UDQM, 40 N.C/RFU, 41 VSS, 42 DQ8, 43 VDDQ, 44 DQ9, 45 DQ10, 46 VSSQ, 47 DQ11, 48 DQ12, 49 VDDQ, 50 DQ13, 51 DQ14, 52 VSSQ, 53 DQ15, 54 VSS

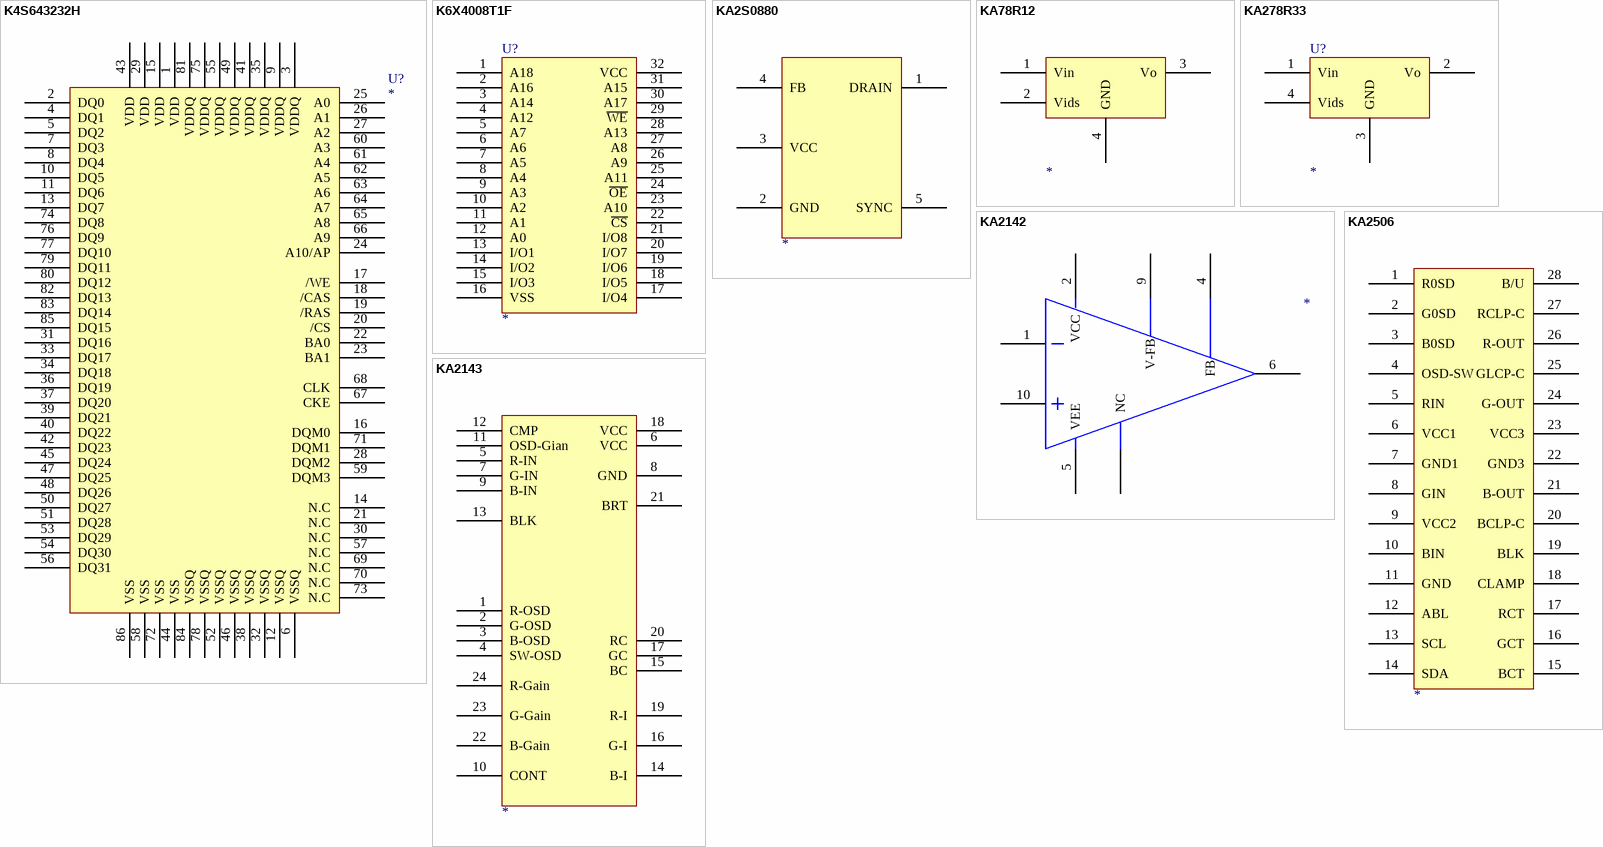
[diagram p34: symbols K4S643232H to KA2506]

## K4S643232H
designator U?
footprint TSOP86
pins: 1 VDD, 2 DQ0, 3 VDDQ, 4 DQ1, 5 DQ2, 6 VSSQ, 7 DQ3, 8 DQ4, 9 VDDQ, 10 DQ5, 11 DQ6, 12 VSSQ, 13 DQ7, 14 N.C, 15 VDD, 16 DQM0, 17 /WE, 18 /CAS, 19 /RAS, 20 /CS, 21 N.C, 22 BA0, 23 BA1, 24 A10/AP, 25 A0, 26 A1, 27 A2, 28 DQM2, 29 VDD, 30 N.C, 31 DQ16, 32 VSSQ, 33 DQ17, 34 DQ18, 35 VDDQ, 36 DQ19, 37 DQ20, 38 VSSQ, 39 DQ21, 40 DQ22, 41 VDDQ, 42 DQ23, 43 VDD, 44 VSS, 45 DQ24, 46 VSSQ, 47 DQ25, 48 DQ26, 49 VDDQ, 50 DQ27, 51 DQ28, 52 VSSQ, 53 DQ29, 54 DQ30, 55 VDDQ, 56 DQ31, 57 N.C, 58 VSS, 59 DQM3, 60 A3, 61 A4, 62 A5, 63 A6, 64 A7, 65 A8, 66 A9, 67 CKE, 68 CLK, 69 N.C, 70 N.C, 71 DQM1, 72 VSS, 73 N.C, 74 DQ8, 75 VDDQ, 76 DQ9, 77 DQ10, 78 VSSQ, 79 DQ11, 80 DQ12, 81 VDDQ, 82 DQ13, 83 DQ14, 84 VSSQ, 85 DQ15, 86 VSS

## K6X4008T1F
designator U?
footprint SOP32
pins: 1 A18, 2 A16, 3 A14, 4 A12, 5 A7, 6 A6, 7 A5, 8 A4, 9 A3, 10 A2, 11 A1, 12 A0, 13 I/O1, 14 I/O2, 15 I/O3, 16 VSS, 17 I/O4, 18 I/O5, 19 I/O6, 20 I/O7, 21 I/O8, 22 ~{CS}, 23 A10, 24 ~{OE}, 25 A11, 26 A9, 27 A8, 28 A13, 29 ~{WE}, 30 A17, 31 A15, 32 VCC

## KA2S0880
designator ?
pins: 1 DRAIN, 2 GND, 3 VCC, 4 FB, 5 SYNC

## KA78R12
designator ?
pins: 1 Vin, 2 Vids, 3 Vo, 4 GND

## KA278R33
designator U?
footprint TO-220F-4L
footprint TO-220F-4LB
footprint TO-220F-4LH
pins: 1 Vin, 2 Vo, 3 GND, 4 Vids

## KA2142
designator ?
pins: 1, 2  VCC  , 3         NC       , 4                FB               , 5    VEE  , 6, 9         V-FB         , 10

## KA2143
designator ?
pins: 1 R-OSD, 2 G-OSD, 3 B-OSD, 4 SW-OSD, 5 R-IN, 6 VCC, 7 G-IN, 8 GND, 9 B-IN, 10 CONT, 11 OSD-Gian, 12 CMP, 13 BLK, 14 B-I, 15 BC, 16 G-I, 17 GC, 18 VCC, 19 R-I, 20 RC, 21 BRT, 22 B-Gain, 23 G-Gain, 24 R-Gain

## KA2506
designator ?
pins: 1 R0SD, 2 G0SD, 3 B0SD, 4 OSD-SW, 5 RIN, 6 VCC1, 7 GND1, 8 GIN, 9 VCC2, 10 BIN, 11 GND, 12 ABL, 13 SCL, 14 SDA, 15 BCT, 16 GCT, 17 RCT, 18 CLAMP, 19 BLK, 20 BCLP-C, 21 B-OUT, 22 GND3, 23 VCC3, 24 G-OUT, 25 GLCP-C, 26 R-OUT, 27 RCLP-C, 28 B/U

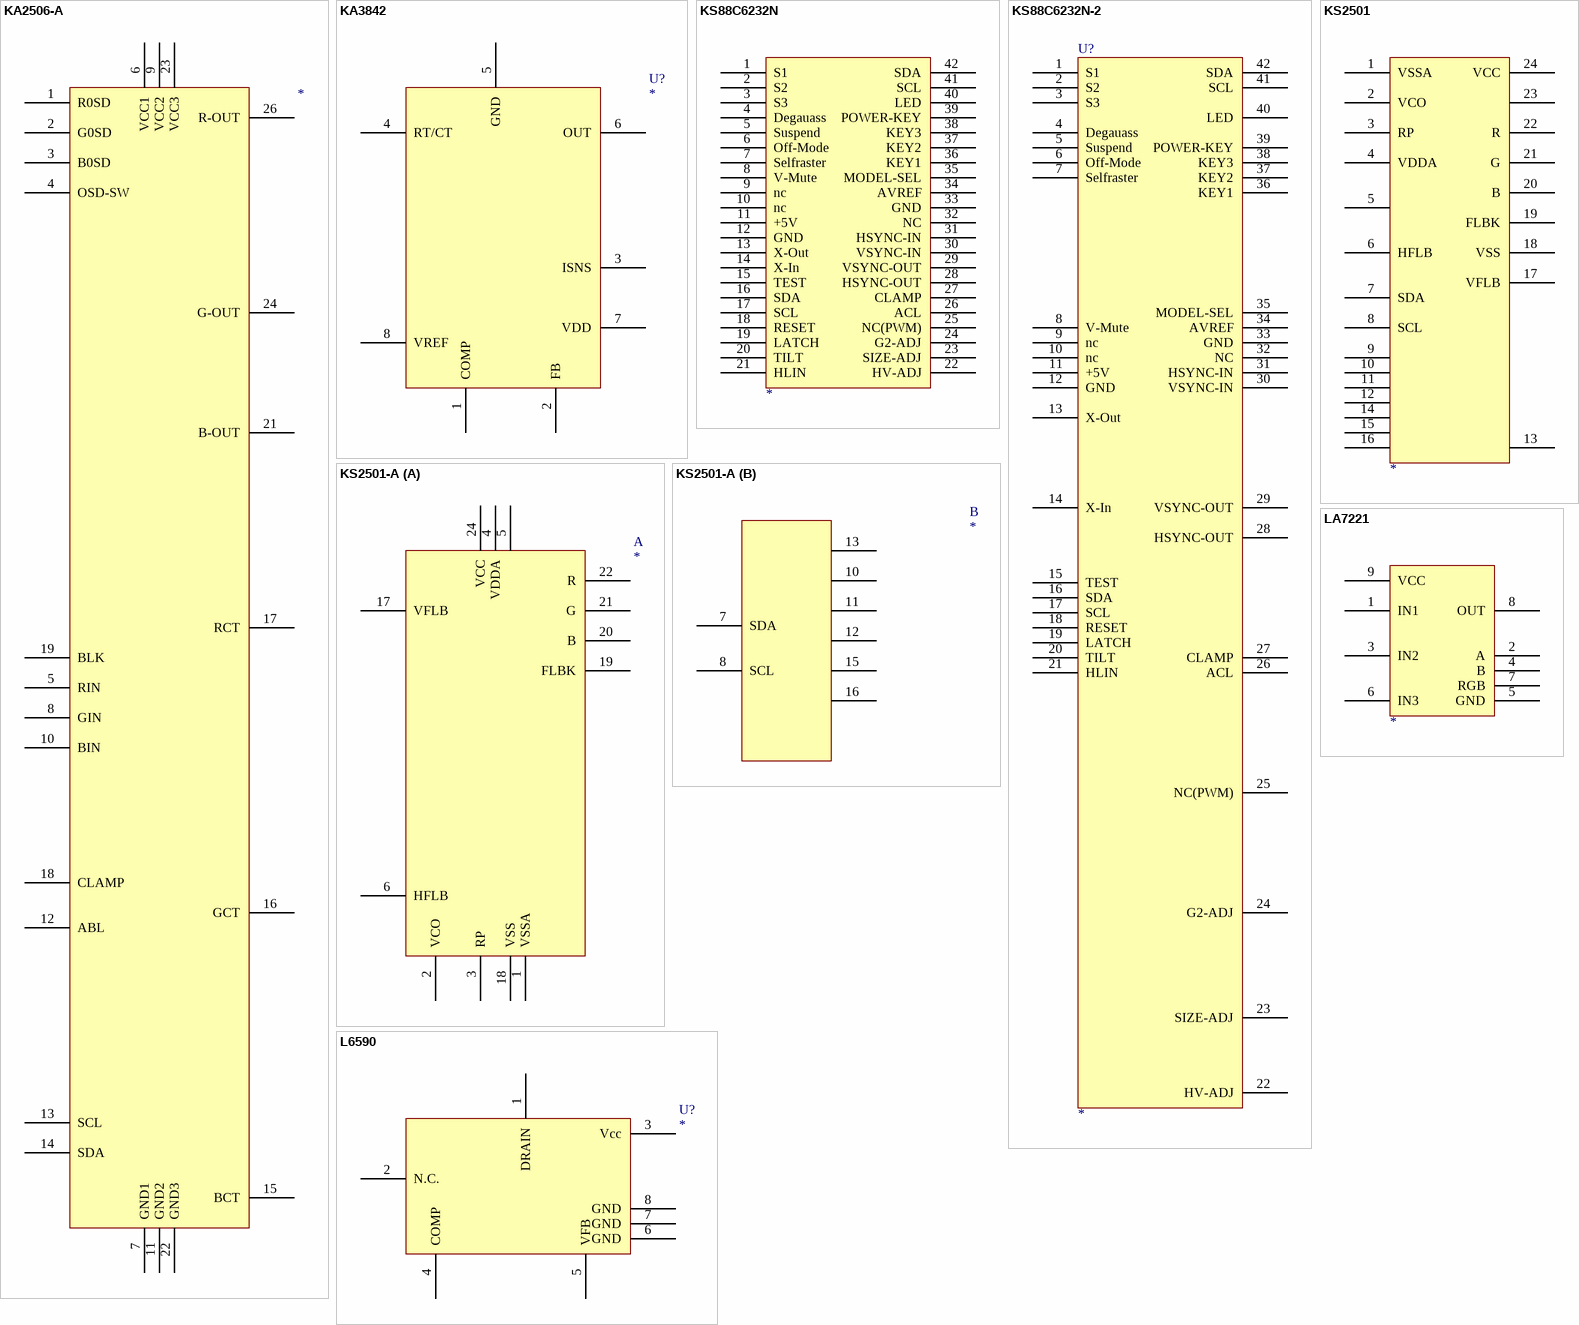
[diagram p35: symbols KA2506-A to LA7221]

## KA2506-A
designator ?
pins: 1 R0SD, 2 G0SD, 3 B0SD, 4 OSD-SW, 5 RIN, 6 VCC1, 7 GND1, 8 GIN, 9 VCC2, 10 BIN, 11 GND2, 12 ABL, 13 SCL, 14 SDA, 15 BCT, 16 GCT, 17 RCT, 18 CLAMP, 19 BLK, 21 B-OUT, 22 GND3, 23 VCC3, 24 G-OUT, 26 R-OUT

## KA3842
designator U?
footprint DIP8
pins: 1 COMP, 2 FB, 3 ISNS, 4 RT/CT, 5 GND, 6 OUT, 7 VDD, 8 VREF

## KS88C6232N
designator ?
pins: 1 S1, 2 S2, 3 S3, 4 Degauass, 5 Suspend, 6 Off-Mode, 7 Selfraster, 8 V-Mute, 9 nc, 10 nc, 11 +5V, 12 GND, 13 X-Out, 14 X-In, 15 TEST, 16 SDA, 17 SCL, 18 RESET, 19 LATCH, 20 TILT, 21 HLIN, 22 HV-ADJ, 23 SIZE-ADJ, 24 G2-ADJ, 25 NC(PWM), 26 ACL, 27 CLAMP, 28 HSYNC-OUT, 29 VSYNC-OUT, 30 VSYNC-IN, 31 HSYNC-IN, 32 NC, 33 GND, 34 AVREF, 35 MODEL-SEL, 36 KEY1, 37 KEY2, 38 KEY3, 39 POWER-KEY, 40 LED, 41 SCL, 42 SDA

## KS88C6232N-2
designator U?
pins: 1 S1, 2 S2, 3 S3, 4 Degauass, 5 Suspend, 6 Off-Mode, 7 Selfraster, 8 V-Mute, 9 nc, 10 nc, 11 +5V, 12 GND, 13 X-Out, 14 X-In, 15 TEST, 16 SDA, 17 SCL, 18 RESET, 19 LATCH, 20 TILT, 21 HLIN, 22 HV-ADJ, 23 SIZE-ADJ, 24 G2-ADJ, 25 NC(PWM), 26 ACL, 27 CLAMP, 28 HSYNC-OUT, 29 VSYNC-OUT, 30 VSYNC-IN, 31 HSYNC-IN, 32 NC, 33 GND, 34 AVREF, 35 MODEL-SEL, 36 KEY1, 37 KEY2, 38 KEY3, 39 POWER-KEY, 40 LED, 41 SCL, 42 SDA

## KS2501
designator ?
pins: 1 VSSA, 2 VCO, 3 RP, 4 VDDA, 5, 6 HFLB, 7 SDA, 8 SCL, 9, 10, 11, 12, 13, 14, 15, 16, 17 VFLB, 18 VSS, 19 FLBK, 20 B, 21 G, 22 R, 23, 24 VCC

## KS2501-A
designator ?
part A pins: 1 VSSA, 2 VCO, 3 RP, 4 VDDA, 5, 6 HFLB, 17 VFLB, 18 VSS, 19 FLBK, 20 B, 21 G, 22 R, 24 VCC
part B pins: 7 SDA, 8 SCL, 10, 11, 12, 13, 15, 16

## L6590
designator U?
footprint DIP8
pins: 1 DRAIN, 2 N.C., 3 Vcc, 4 COMP, 5 VFB, 6 GND, 7 GND, 8 GND

## LA7221
designator ?
U?
pins: 1 IN1, 2 A, 3 IN2, 4 B, 5 GND (power), 6 IN3, 7 RGB, 8 OUT, 9 VCC (power)

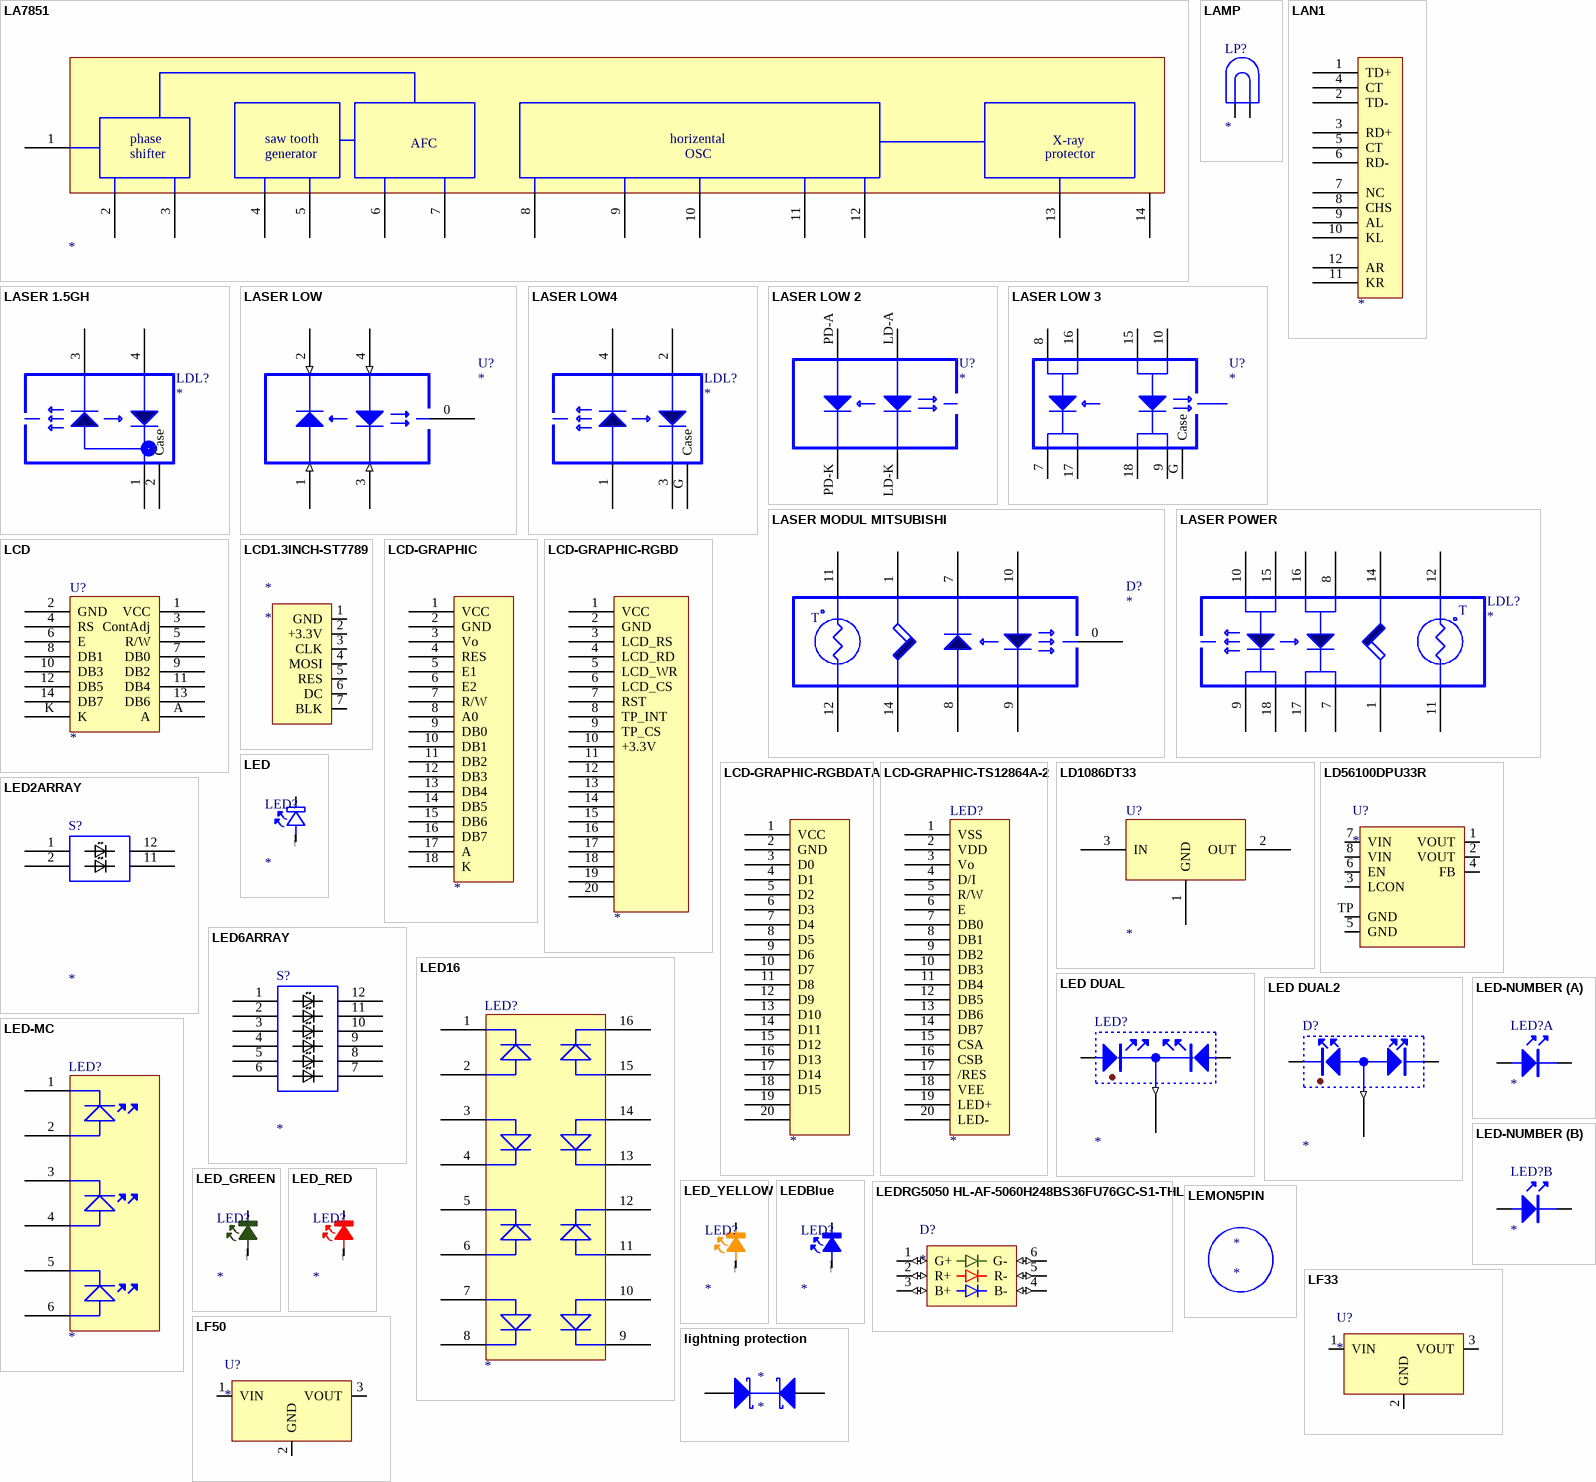
[diagram p36: symbols LA7851 to lightning protection]

## LA7851
designator ?
pins: 1, 2, 3, 4, 5, 6, 7, 8, 9, 10, 11, 12, 13, 14
text: phase; saw tooth; horizental; X-ray; AFC; shifter; generator; OSC; protector

## LAMP
designator LP?
pins: 1, 2

## LAN1
designator ?
pins: 1 TD+, 2 TD-, 3 RD+, 4 CT, 5 CT, 6 RD-, 7 NC, 8 CHS, 9 AL, 10 KL, 11 KR, 12 AR

## LASER 1.5GH
designator LDL?
footprint LDHP2
pins: 1, 2 Case, 3, 4

## LASER LOW
designator U?
pins: 0, 1 PA (in), 2 PH-K (in), 3 KATODE (in), 4 ANODE (in)

## LASER LOW4
designator LDL?
footprint LDHP2
pins: 1, 2, 3, 4, G Case

## LASER LOW 2
designator U?
pins: LD-A, LD-K, PD-A, PD-K

## LASER LOW 3
designator U?
pins: 7, 8, 9, 10, 15 LD-A, 16 PD-K, 17 PD-A, 18 LD-K, G Case

## LASER MODUL MITSUBISHI
designator D?
pins: 0, 1 +COLLER, 7 CATHODE PH.DET, 8 ANODE PH.DET, 9 CATHODE LASER, 10 ANODE LASER, 11 TERMISTOR, 12 TERMISTOR, 14 -COLLER
text: T

## LASER POWER
designator LDL?
pins: 1, 7, 8, 9, 10, 11, 12, 14, 15, 16, 17, 18
text: T

## LCD
designator U?
footprint LCD1
pins: 1 VCC, 2 GND, 3 ContAdj, 4 RS, 5 R/W, 6 E, 7 DB0, 8 DB1, 9 DB2, 10 DB3, 11 DB4, 12 DB5, 13 DB6, 14 DB7, A, K

## LCD1.3INCH-ST7789
designator *
footprint LCD1.3INCHST7789
pins: 1 GND, 2 +3.3V, 3 CLK, 4 MOSI, 5 RES, 6 DC, 7 BLK

## LCD-GRAPHIC
designator ?
pins: 1 VCC, 2 GND, 3 Vo, 4 RES, 5 E1, 6 E2, 7 R/W, 8 A0, 9 DB0, 10 DB1, 11 DB2, 12 DB3, 13 DB4, 14 DB5, 15 DB6, 16 DB7, 17 A, 18 K

## LCD-GRAPHIC-RGBD
designator ?
pins: 1 VCC, 2 GND, 3 LCD_RS, 4 LCD_RD, 5 LCD_WR, 6 LCD_CS, 7 RST, 8 TP_INT, 9 TP_CS, 10 +3.3V, 11, 12, 13, 14, 15, 16, 17, 18, 19, 20

## LCD-GRAPHIC-RGBDATA
designator ?
pins: 1 VCC, 2 GND, 3 D0, 4 D1, 5 D2, 6 D3, 7 D4, 8 D5, 9 D6, 10 D7, 11 D8, 12 D9, 13 D10, 14 D11, 15 D12, 16 D13, 17 D14, 18 D15, 19, 20

## LCD-GRAPHIC-TS12864A-2
designator LED?
pins: 1 VSS, 2 VDD, 3 Vo, 4 D/I, 5 R/W, 6 E, 7 DB0, 8 DB1, 9 DB2, 10 DB3, 11 DB4, 12 DB5, 13 DB6, 14 DB7, 15 CSA, 16 CSB, 17 /RES, 18 VEE, 19 LED+, 20 LED-

## LD1086DT33
designator U?
footprint TO-252
pins: 1 GND, 2 OUT, 3 IN

## LD56100DPU33R
designator U?
footprint DFN8 (Footprint not found)
pins: 1 VOUT, 2 VOUT, 3 LCON, 4 FB, 5 GND, 6 EN, 7 VIN, 8 VIN, TP GND

## LED
designator LED?
footprint LED0805W
footprint LED1R3
pins: A, K
text: @DesignPCB

## LED2ARRAY
designator S?
pins: 1 A1, 2 A2, 11 B2, 12 B1

## LED6ARRAY
designator S?
pins: 1 A1, 2 A2, 3 A3, 4 A4, 5 A5, 6 A6, 7 B6, 8 B5, 9 B4, 10 B3, 11 B2, 12 B1

## LED16
designator LED?
footprint DIP16
pins: 1, 2, 3, 4, 5, 6, 7, 8, 9, 10, 11, 12, 13, 14, 15, 16

## LED DUAL
designator LED?
footprint LED2RA3
footprint LED2RA5
pins: A, AR, K (out)

## LED DUAL2
designator D?
footprint LED2R5
pins: A, AR, K (out)

## LED-MC
designator LED?
footprint LED-MC
pins: 1, 2, 3, 4, 5, 6

## LED-NUMBER
designator LED?
footprint LEDR-2
footprint LED1R3
part A pins: 1, 2
part B pins: 3, 4

## LED_GREEN
designator LED?
footprint LEDR-2
footprint LED1R3
footprint LED0805G
pins: A, K
text: @DesignPCB

## LED_RED
designator LED?
footprint LED0805R
footprint LED1R3
pins: A, K
text: @DesignPCB

## LED_YELLOW
designator LED?
footprint LED0805Y
footprint LED1R3
pins: A, K
text: @DesignPCB

## LEDBlue
designator LED?
footprint LED0805B
footprint LED1R3
pins: A, K
text: @DesignPCB

## LEDRG5050 HL-AF-5060H248BS36FU76GC-S1-THL
designator D?
Addressable Lighting - 1 LED Discrete PWM Red, Green, Blue (RGB) 5.00mm L x 5.00mm W; MF: SparkFun Electronics; MP: 5050RGB; Check_prices: https://www.snapeda.com/parts/5050RGB/SparkFun+Electronics/view-part/?ref=eda; SnapEDA_Link: https://www.snapeda.com/parts/5050RGB/SparkFun+Electronics/view-part/?ref=snap; Availability: Not in stock; Value: *; Price: None; Package: SparkFun Electronics
footprint LED6-SMD-5050
pins: 1 G+ (io), 2 R+ (io), 3 B+ (io), 4 B- (io), 5 R- (io), 6 G- (io)

## LEMON5PIN
designator *

## LF33
designator U?
footprint DPAK228P972X240-3N (Footprint not found)
pins: 1 VIN, 2 GND, 3 VOUT

## LF50
designator U?
footprint DPAK228P972X240-3N (Footprint not found)
pins: 1 VIN, 2 GND, 3 VOUT

## lightning protection
designator *
pins: 1 A1, 2 A2

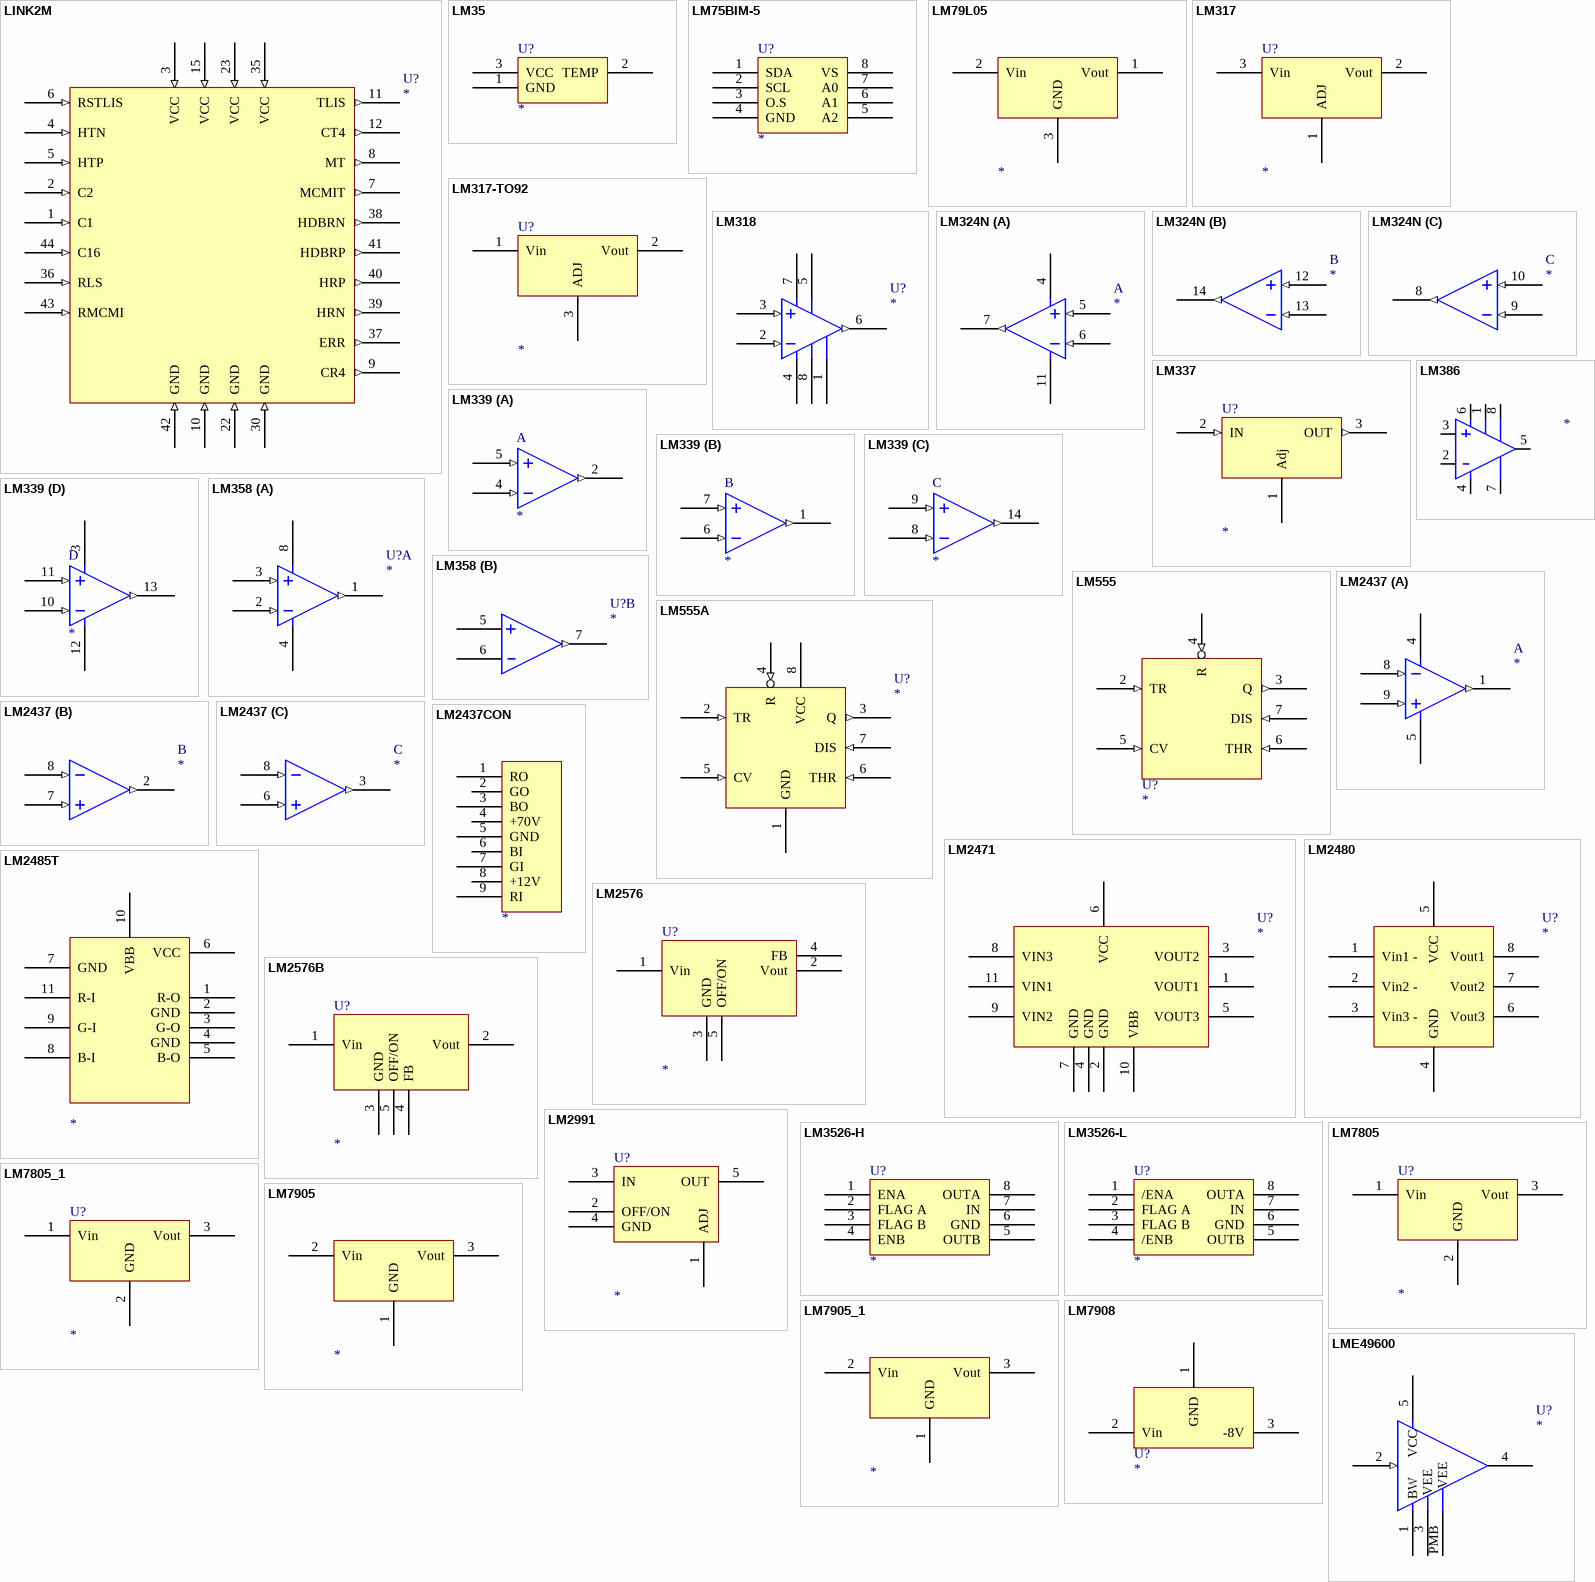
[diagram p37: symbols LINK2M to LME49600]

## LINK2M
designator U?
pins: 1 C1 (in), 2 C2 (in), 3 VCC (in), 4 HTN (in), 5 HTP (in), 6 RSTLIS (in), 7 MCMIT (out), 8 MT (out), 9 CR4 (out), 10 GND (in), 11 TLIS (out), 12 CT4 (out), 15 VCC (in), 22 GND (in), 23 VCC (in), 30 GND (in), 35 VCC (in), 36 RLS (in), 37 ERR (out), 38 HDBRN (out), 39 HRN (out), 40 HRP (out), 41 HDBRP (out), 42 GND (in), 43 RMCMI (in), 44 C16 (in)

## LM35
designator U?
footprint TO-92
pins: 1 GND, 2 TEMP, 3 VCC

## LM75BIM-5
designator U?
footprint SO-8
pins: 1 SDA, 2 SCL, 3 O.S, 4 GND, 5 A2, 6 A1, 7 A0, 8 VS

## LM79L05
designator ?
pins: 1 Vout, 2 Vin, 3 GND

## LM317
designator U?
footprint TO-220A
pins: 1 ADJ, 2 Vout, 3 Vin

## LM317-TO92
designator U?
footprint TO-92
pins: 1 Vin, 2 Vout, 3 ADJ

## LM318
designator U?
pins: 1 COMP3, 2 -IN (in), 3 +IN (in), 4 V-, 5 COMP1, 6 OUT (out), 7 V+, 8 COMP2

## LM324N
designator ?
part A pins: 4 V+, 5 Q1 (in), 6 Q2 (in), 7 D1 (out), 11 V-
part B pins: 12 Q1 (in), 13 Q2 (in), 14 D1 (out)
part C pins: 8 D1 (out), 9 Q2 (in), 10 (in)

## LM337
designator U?
pins: 1 Adj, 2 IN (in), 3 OUT (out)

## LM339
designator ?
part A pins: 2 OUT (out), 4 -IN (in), 5 +IN (in)
part B pins: 1 OUT (out), 6 -IN (in), 7 +IN (in)
part C pins: 8 -IN (in), 9 +IN (in), 14 OUT (out)
part D pins: 3 V-, 10 -IN (in), 11 +IN (in), 12 V+, 13 OUT (out)

## LM358
designator U?
footprint SO-8
footprint DIP8
part A pins: 1 OUT (out), 2 -IN (in), 3 +IN (in), 4 V+, 8 V-
part B pins: 5, 6, 7 OUT (out)

## LM386
designator ?
pins: 1, 2, 3, 4, 5, 6, 7, 8

## LM555
designator U?
pins: 1 GND (power) hidden to GND, 2 TR (in), 3 Q (out), 4 R (in), 5 CV (in), 6 THR (in), 7 DIS (in), 8 VCC (power) hidden to VCC

## LM555A
designator U?
pins: 1 GND (power), 2 TR (in), 3 Q (out), 4 R (in), 5 CV (in), 6 THR (in), 7 DIS (in), 8 VCC (power)

## LM2437
designator ?
part A pins: 1 D1 (out), 4 V-, 5 V+, 8 Q2 (in), 9 Q1 (in)
part B pins: 2 D1 (out), 7 Q1 (in), 8 Q2 (in)
part C pins: 3 D1 (out), 6 Q1 (in), 8 Q2 (in)

## LM2437CON
designator ?
pins: 1 RO, 2 GO, 3 BO, 4 +70V, 5 GND, 6 BI, 7 GI, 8 +12V, 9 RI

## LM2471
designator U?
pins: 1 VOUT1, 2 GND, 3 VOUT2, 4 GND, 5 VOUT3, 6 VCC, 7 GND, 8 VIN3, 9 VIN2, 10 VBB, 11 VIN1

## LM2480
designator U?
pins: 1 Vin1 -, 2 Vin2 -, 3 Vin3 -, 4 GND, 5 VCC, 6 Vout3, 7 Vout2, 8 Vout1

## LM2485T
designator ?
pins: 1 R-O, 2 GND, 3 G-O, 4 GND, 5 B-O, 6 VCC, 7 GND, 8 B-I, 9 G-I, 10 VBB, 11 R-I

## LM2576
designator U?
footprint TO-220F-5L
pins: 1 Vin, 2 Vout, 3 GND, 4 FB, 5 OFF/ON

## LM2576B
designator U?
footprint TO-220F-5L
pins: 1 Vin, 2 Vout, 3 GND, 4 FB, 5 OFF/ON

## LM2991
designator U?
footprint TO-220F-5L
pins: 1 ADJ, 2 OFF/ON, 3 IN, 4 GND, 5 OUT

## LM3526-H
designator U?
footprint SO-8
pins: 1 ENA, 2 FLAG A, 3 FLAG B, 4 ENB, 5 OUTB, 6 GND, 7 IN, 8 OUTA

## LM3526-L
designator U?
footprint SO-8
pins: 1 /ENA, 2 FLAG A, 3 FLAG B, 4 /ENB, 5 OUTB, 6 GND, 7 IN, 8 OUTA

## LM7805
designator U?
footprint TO-92
footprint TO-220A
footprint TO-220
pins: 1 Vin, 2 GND, 3 Vout

## LM7805_1
designator U?
footprint TO-92
footprint TO-220
footprint TO-220A
footprint TO-3
pins: 1 Vin, 2 GND, 3 Vout

## LM7905
designator ?
pins: 1 GND, 2 Vin, 3 Vout

## LM7905_1
designator ?
pins: 1 GND, 2 Vin, 3 Vout

## LM7908
designator U?
footprint TO220
pins: 1 GND, 2 Vin, 3 -8V

## LME49600
designator U?
footprint TS5B
pins: 1  BW, 2 (in), 3   VEE, 4, 5 VCC, PMB     VEE

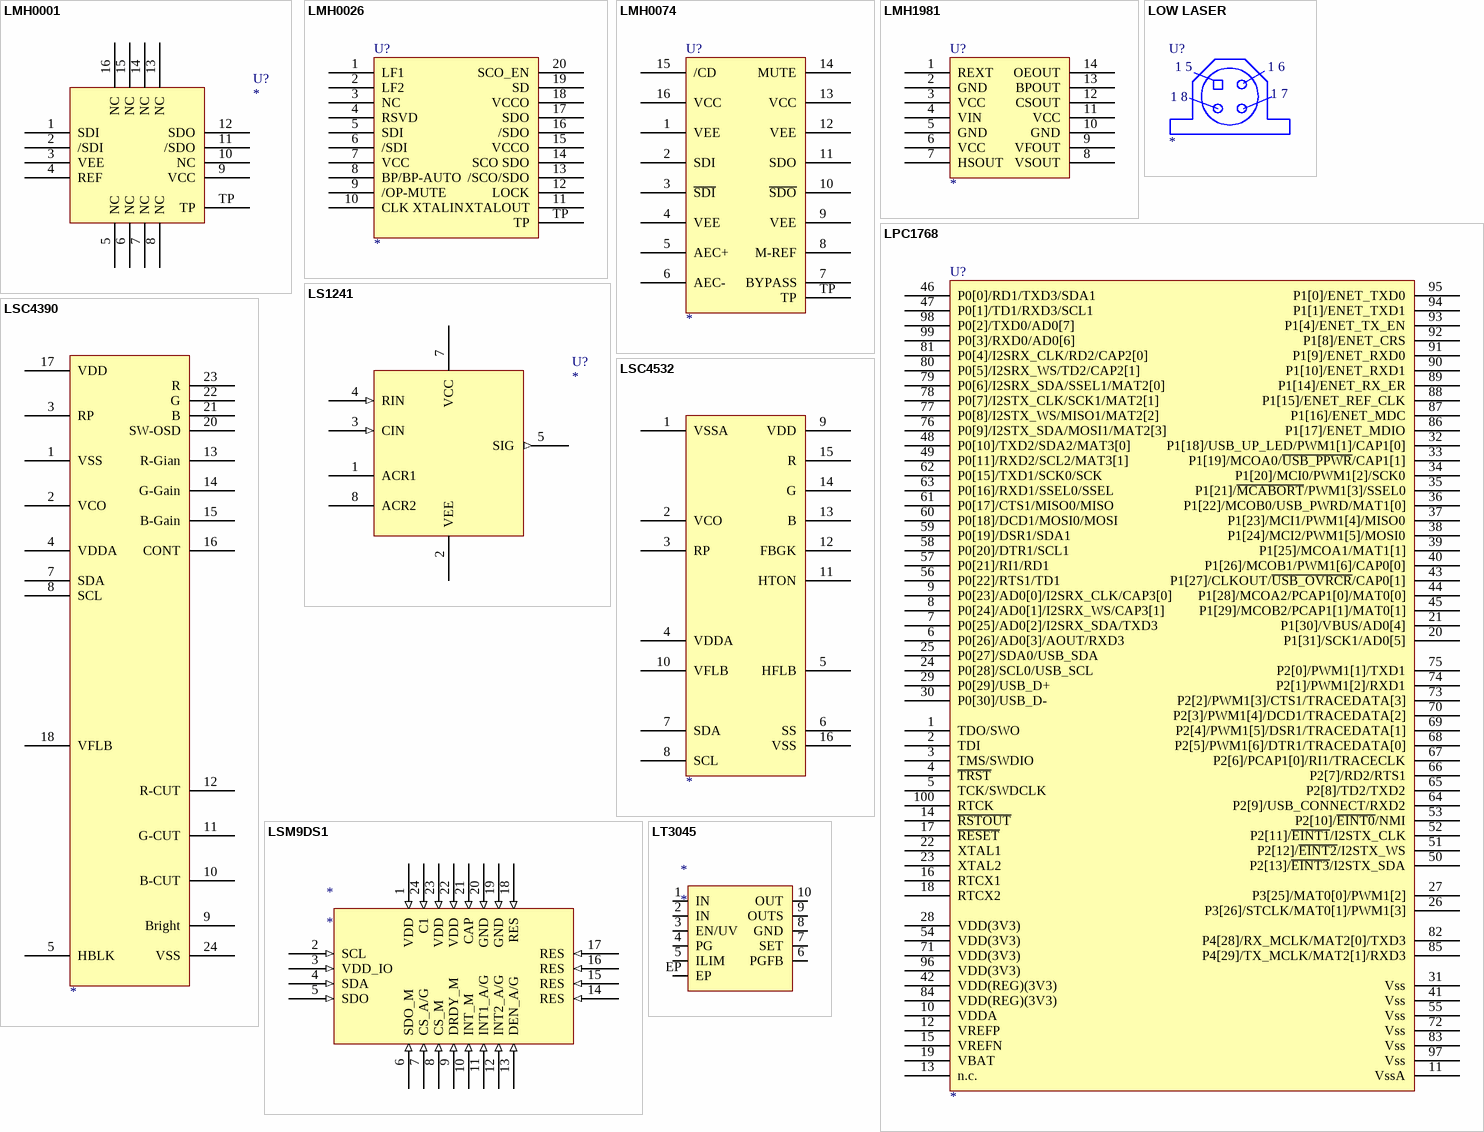
[diagram p38: symbols LMH0001 to LT3045]

## LMH0001
designator U?
footprint QFN16
pins: 1 SDI, 2 /SDI, 3 VEE, 4 REF, 5 NC, 6 NC, 7 NC, 8 NC, 9 VCC, 10 NC, 11 /SDO, 12 SDO, 13 NC, 14 NC, 15 NC, 16 NC, TP

## LMH0026
designator U?
footprint TSSOP20
pins: 1 LF1, 2 LF2, 3 NC, 4 RSVD, 5 SDI, 6 /SDI, 7 VCC, 8 BP/BP-AUTO, 9 /OP-MUTE, 10 CLK XTALIN, 11 XTALOUT, 12 LOCK, 13 /SCO/SDO, 14 SCO SDO, 15 VCCO, 16 /SDO, 17 SDO, 18 VCCO, 19 SD, 20 SCO_EN, TP

## LMH0074
designator U?
footprint QFN16
pins: 1 VEE, 2 SDI, 3 ~{SDI}, 4 VEE, 5 AEC+, 6 AEC-, 7 BYPASS, 8 M-REF, 9 VEE, 10 ~{SDO}, 11 SDO, 12 VEE, 13 VCC, 14 MUTE, 15 /CD, 16 VCC, TP

## LMH1981
designator U?
footprint TSS-14
pins: 1 REXT, 2 GND, 3 VCC, 4 VIN, 5 GND, 6 VCC, 7 HSOUT, 8 VSOUT, 9 VFOUT, 10 GND, 11 VCC, 12 CSOUT, 13 BPOUT, 14 OEOUT

## LOW LASER
designator U?
text: 1 5; 1 6; 1 8; 1 7

## LPC1768
designator U?
footprint LQFP100
pins: 1 TDO/SWO, 2 TDI, 3 TMS/SWDIO, 4 ~{TRST}, 5 TCK/SWDCLK, 6 P0[26]/AD0[3]/AOUT/RXD3, 7 P0[25]/AD0[2]/I2SRX_SDA/TXD3, 8 P0[24]/AD0[1]/I2SRX_WS/CAP3[1], 9 P0[23]/AD0[0]/I2SRX_CLK/CAP3[0], 10 VDDA, 11 VssA, 12 VREFP, 13 n.c., 14 ~{RSTOUT}, 15 VREFN, 16 RTCX1, 17 ~{RESET}, 18 RTCX2, 19 VBAT, 20 P1[31]/SCK1/AD0[5], 21 P1[30]/VBUS/AD0[4], 22 XTAL1, 23 XTAL2, 24 P0[28]/SCL0/USB_SCL, 25 P0[27]/SDA0/USB_SDA, 26 P3[26]/STCLK/MAT0[1]/PWM1[3], 27 P3[25]/MAT0[0]/PWM1[2], 28 VDD(3V3), 29 P0[29]/USB_D+, 30 P0[30]/USB_D-, 31 Vss, 32 P1[18]/USB_UP_LED/PWM1[1]/CAP1[0], 33 P1[19]/MCOA0/~{USB_PPWR}/CAP1[1], 34 P1[20]/MCI0/PWM1[2]/SCK0, 35 P1[21]/~{MCABORT}/PWM1[3]/SSEL0, 36 P1[22]/MCOB0/USB_PWRD/MAT1[0], 37 P1[23]/MCI1/PWM1[4]/MISO0, 38 P1[24]/MCI2/PWM1[5]/MOSI0, 39 P1[25]/MCOA1/MAT1[1], 40 P1[26]/MCOB1/PWM1[6]/CAP0[0], 41 Vss, 42 VDD(REG)(3V3), 43 P1[27]/CLKOUT/~{USB_OVRCR}/CAP0[1], 44 P1[28]/MCOA2/PCAP1[0]/MAT0[0], 45 P1[29]/MCOB2/PCAP1[1]/MAT0[1], 46 P0[0]/RD1/TXD3/SDA1, 47 P0[1]/TD1/RXD3/SCL1, 48 P0[10]/TXD2/SDA2/MAT3[0], 49 P0[11]/RXD2/SCL2/MAT3[1], 50 P2[13]/~{EINT3}/I2STX_SDA, 51 P2[12]/~{EINT2}/I2STX_WS, 52 P2[11]/~{EINT1}/I2STX_CLK, 53 P2[10]/~{EINT0}/NMI, 54 VDD(3V3), 55 Vss, 56 P0[22]/RTS1/TD1, 57 P0[21]/RI1/RD1, 58 P0[20]/DTR1/SCL1, 59 P0[19]/DSR1/SDA1, 60 P0[18]/DCD1/MOSI0/MOSI, 61 P0[17]/CTS1/MISO0/MISO, 62 P0[15]/TXD1/SCK0/SCK, 63 P0[16]/RXD1/SSEL0/SSEL, 64 P2[9]/USB_CONNECT/RXD2, 65 P2[8]/TD2/TXD2, 66 P2[7]/RD2/RTS1, 67 P2[6]/PCAP1[0]/RI1/TRACECLK, 68 P2[5]/PWM1[6]/DTR1/TRACEDATA[0], 69 P2[4]/PWM1[5]/DSR1/TRACEDATA[1], 70 P2[3]/PWM1[4]/DCD1/TRACEDATA[2], 71 VDD(3V3), 72 Vss, 73 P2[2]/PWM1[3]/CTS1/TRACEDATA[3], 74 P2[1]/PWM1[2]/RXD1, 75 P2[0]/PWM1[1]/TXD1, 76 P0[9]/I2STX_SDA/MOSI1/MAT2[3], 77 P0[8]/I2STX_WS/MISO1/MAT2[2], 78 P0[7]/I2STX_CLK/SCK1/MAT2[1], 79 P0[6]/I2SRX_SDA/SSEL1/MAT2[0], 80 P0[5]/I2SRX_WS/TD2/CAP2[1], 81 P0[4]/I2SRX_CLK/RD2/CAP2[0], 82 P4[28]/RX_MCLK/MAT2[0]/TXD3, 83 Vss, 84 VDD(REG)(3V3), 85 P4[29]/TX_MCLK/MAT2[1]/RXD3, 86 P1[17]/ENET_MDIO, 87 P1[16]/ENET_MDC, 88 P1[15]/ENET_REF_CLK, 89 P1[14]/ENET_RX_ER, 90 P1[10]/ENET_RXD1, 91 P1[9]/ENET_RXD0, 92 P1[8]/ENET_CRS, 93 P1[4]/ENET_TX_EN, 94 P1[1]/ENET_TXD1, 95 P1[0]/ENET_TXD0, 96 VDD(3V3), 97 Vss, 98 P0[2]/TXD0/AD0[7], 99 P0[3]/RXD0/AD0[6], 100 RTCK

## LS1241
designator U?
pins: 1 ACR1, 2 VEE, 3 CIN (in), 4 RIN (in), 5 SIG (out), 7 VCC, 8 ACR2

## LSC4390
designator ?
pins: 1 VSS, 2 VCO, 3 RP, 4 VDDA, 5 HBLK, 7 SDA, 8 SCL, 9 Bright, 10 B-CUT, 11 G-CUT, 12 R-CUT, 13 R-Gian, 14 G-Gain, 15 B-Gain, 16 CONT, 17 VDD, 18 VFLB, 20 SW-OSD, 21 B, 22 G, 23 R, 24 VSS

## LSC4532
designator ?
pins: 1 VSSA, 2 VCO, 3 RP, 4 VDDA, 5 HFLB, 6 SS, 7 SDA, 8 SCL, 9 VDD, 10 VFLB, 11 HTON, 12 FBGK, 13 B, 14 G, 15 R, 16 VSS

## LSM9DS1
designator *
pins: 1 VDD (in), 2 SCL (in), 3 VDD_IO (in), 4 SDA (in), 5 SDO (in), 6 SDO_M (in), 7 CS_A/G (in), 8 CS_M (in), 9 DRDY_M (in), 10 INT_M (in), 11 INT1_A/G (in), 12 INT2_A/G (in), 13 DEN_A/G (in), 14 RES (in), 15 RES (in), 16 RES (in), 17 RES (in), 18 RES (in), 19 GND (in), 20 GND (in), 21 CAP (in), 22 VDD (in), 23 VDD (in), 24 C1 (in)

## LT3045
designator *
footprint DDFN10
pins: 1 IN, 2 IN, 3 EN/UV, 4 PG, 5 ILIM, 6 PGFB, 7 SET, 8 GND, 9 OUTS, 10 OUT, EP

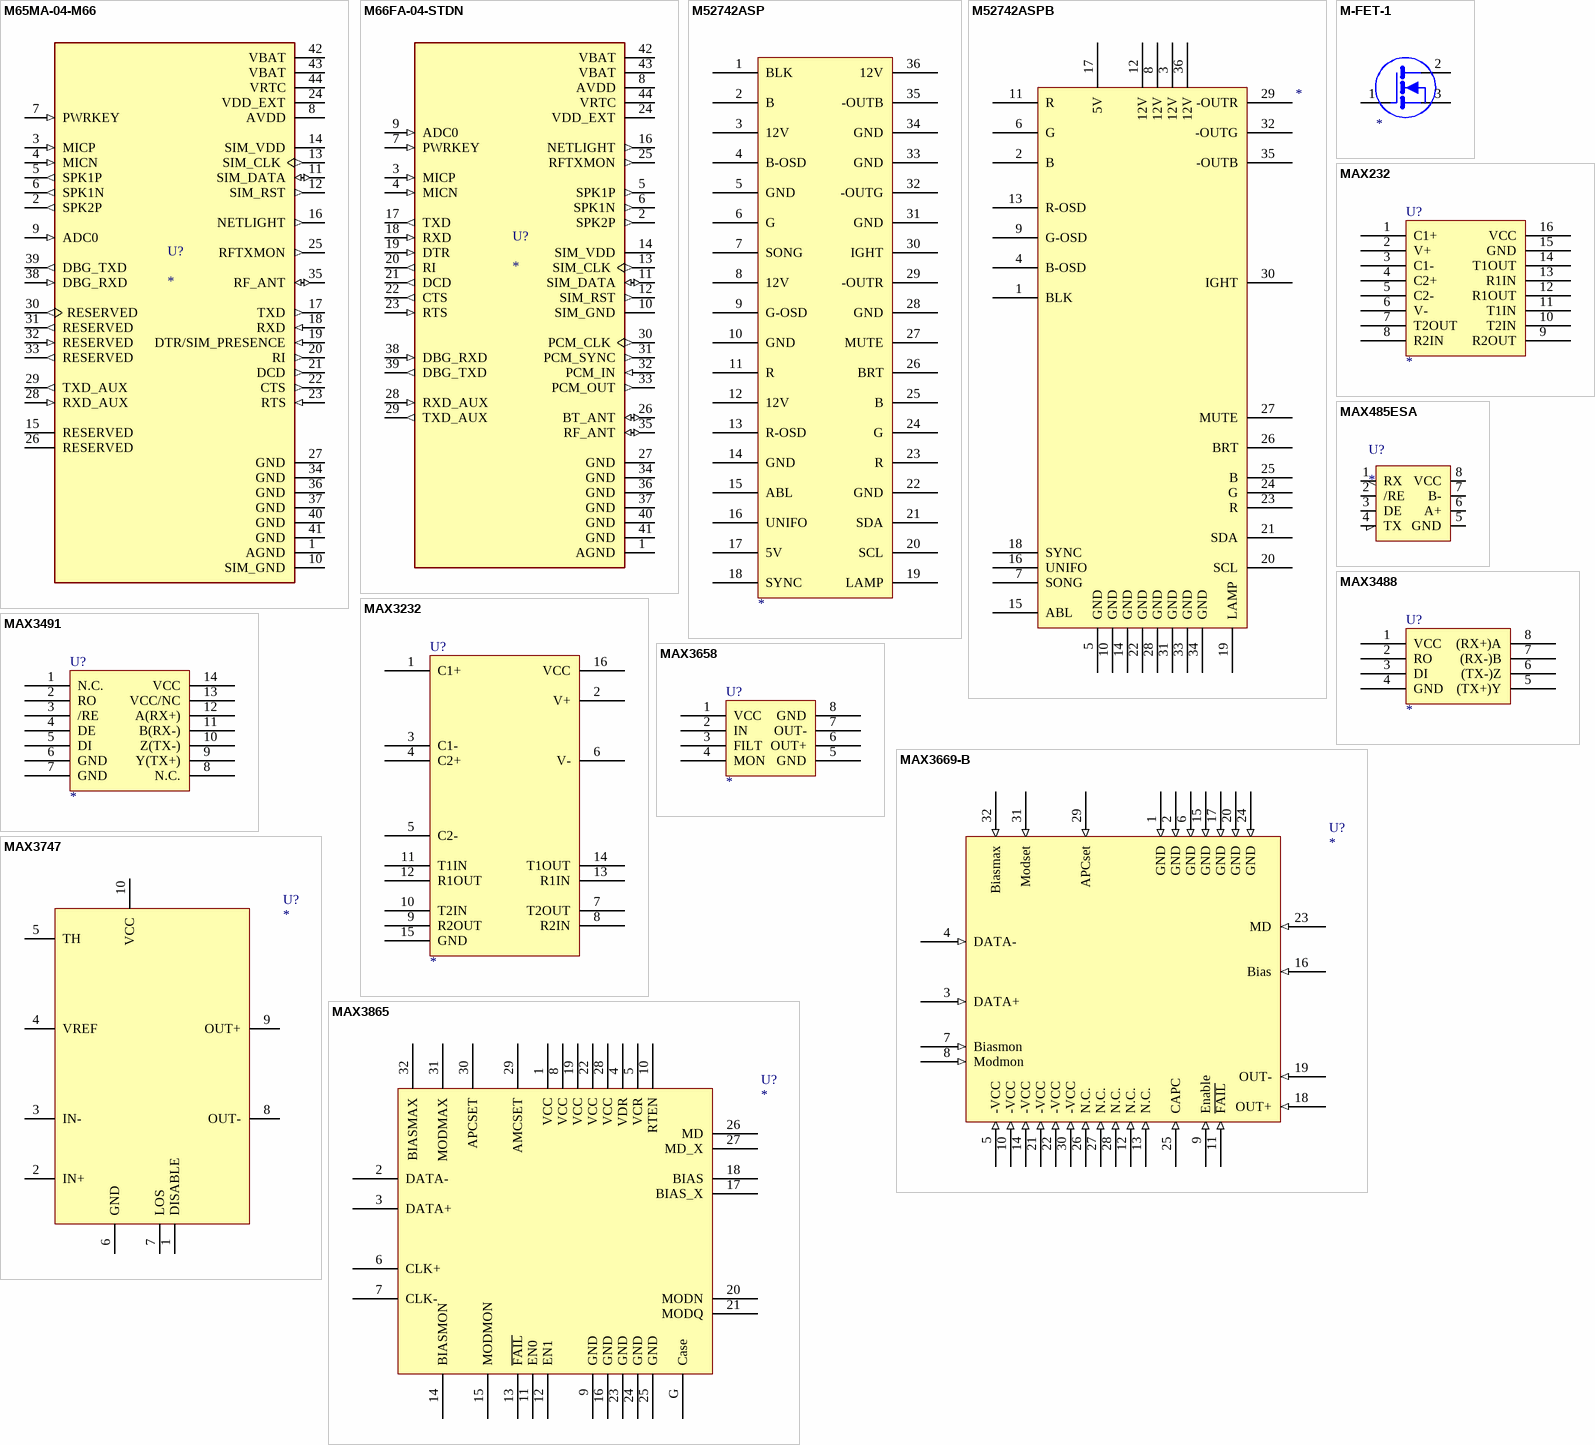
[diagram p39: symbols M65MA-04-M66 to MAX3865]

## M65MA-04-M66
designator U?
Cellular GSM, GPRS Transceiver Module 850MHz, 900MHz, 1.8GHz, 1.9GHz Antenna Not Included Surface Mount; MP: M65MA-04-M66; MF: Quectel; Price: None; SnapEDA_Link: https://www.snapeda.com/parts/M65MA-04-M66/Quectel/view-part/?ref=snap; Check_prices: https://www.snapeda.com/parts/M65MA-04-M66/Quectel/view-part/?ref=eda; Availability: Not in stock; Value: *; Package: None
footprint XCVR_M65MA-04-M66
pins: 1 AGND (power), 2 SPK2P (out), 3 MICP (in), 4 MICN (in), 5 SPK1P (out), 6 SPK1N (out), 7 PWRKEY (in), 8 AVDD (power), 9 ADC0 (in), 10 SIM_GND (power), 11 SIM_DATA (io), 12 SIM_RST (out), 13 SIM_CLK (out), 14 SIM_VDD (power), 15 RESERVED, 16 NETLIGHT (out), 17 TXD (out), 18 RXD (in), 19 DTR/SIM_PRESENCE (in), 20 RI (out), 21 DCD (out), 22 CTS (out), 23 RTS (in), 24 VDD_EXT (power), 25 RFTXMON (out), 26 RESERVED, 27 GND (power), 28 RXD_AUX (in), 29 TXD_AUX (out), 30 RESERVED (out), 31 RESERVED (out), 32 RESERVED (in), 33 RESERVED (out), 34 GND (power), 35 RF_ANT (io), 36 GND (power), 37 GND (power), 38 DBG_RXD (in), 39 DBG_TXD (out), 40 GND (power), 41 GND (power), 42 VBAT (power), 43 VBAT (power), 44 VRTC (power)

## M66FA-04-STDN
designator U?
Bluetooth, Cellular Bluetooth v3.0, GSM, GPRS Transceiver Module 850MHz, 900MHz, 1.8GHz, 1.9GHz Antenna Not Included Surface Mount; MF: Quectel; MP: M66FA04STDN; Value: *; Purchase-URL: https://pricing.snapeda.com/search/part/M66FA04STDN/?ref=eda; Price: None; Package: SMD-52 Quectel; Availability: In Stock; SnapEDA_Link: https://www.snapeda.com/parts/M66FA04STDN/Quectel/view-part/?ref=snap; Check_prices: https://www.snapeda.com/parts/M66FA04STDN/Quectel/view-part/?ref=eda
footprint XCVR_M66FA-04-STDN
pins: 1 AGND (power), 2 SPK2P (out), 3 MICP (in), 4 MICN (in), 5 SPK1P (out), 6 SPK1N (out), 7 PWRKEY (in), 8 AVDD (power), 9 ADC0 (in), 10 SIM_GND (power), 11 SIM_DATA (io), 12 SIM_RST (out), 13 SIM_CLK (out), 14 SIM_VDD (power), 16 NETLIGHT (out), 17 TXD (out), 18 RXD (in), 19 DTR (in), 20 RI (out), 21 DCD (out), 22 CTS (out), 23 RTS (in), 24 VDD_EXT (power), 25 RFTXMON (out), 26 BT_ANT (io), 27 GND (power), 28 RXD_AUX (in), 29 TXD_AUX (out), 30 PCM_CLK (out), 31 PCM_SYNC (out), 32 PCM_IN (in), 33 PCM_OUT (out), 34 GND (power), 35 RF_ANT (io), 36 GND (power), 37 GND (power), 38 DBG_RXD (in), 39 DBG_TXD (out), 40 GND (power), 41 GND (power), 42 VBAT (power), 43 VBAT (power), 44 VRTC (power)

## M52742ASP
designator ?
pins: 1 BLK, 2 B, 3 12V, 4 B-OSD, 5 GND, 6 G, 7 SONG, 8 12V, 9 G-OSD, 10 GND, 11 R, 12 12V, 13 R-OSD, 14 GND, 15 ABL, 16 UNIFO, 17 5V, 18 SYNC, 19 LAMP, 20 SCL, 21 SDA, 22 GND, 23 R, 24 G, 25 B, 26 BRT, 27 MUTE, 28 GND, 29 -OUTR, 30 IGHT, 31 GND, 32 -OUTG, 33 GND, 34 GND, 35 -OUTB, 36 12V

## M52742ASPB
designator ?
pins: 1 BLK, 2 B, 3 12V, 4 B-OSD, 5 GND, 6 G, 7 SONG, 8 12V, 9 G-OSD, 10 GND, 11 R, 12 12V, 13 R-OSD, 14 GND, 15 ABL, 16 UNIFO, 17 5V, 18 SYNC, 19 LAMP, 20 SCL, 21 SDA, 22 GND, 23 R, 24 G, 25 B, 26 BRT, 27 MUTE, 28 GND, 29 -OUTR, 30 IGHT, 31 GND, 32 -OUTG, 33 GND, 34 GND, 35 -OUTB, 36 12V

## M-FET-1
designator ?
pins: 1, 2, 3

## MAX232
designator U?
footprint SOL-16
pins: 1 C1+, 2 V+, 3 C1-, 4 C2+, 5 C2-, 6 V-, 7 T2OUT, 8 R2IN, 9 R2OUT, 10 T2IN, 11 T1IN, 12 R1OUT, 13 R1IN, 14 T1OUT, 15 GND, 16 VCC

## MAX485ESA
designator U?
footprint SO-8
pins: 1 RX, 2 /RE, 3 DE, 4 TX, 5 GND, 6 A+, 7 B-, 8 VCC

## MAX3232
designator U?
footprint SOP16
pins: 1 C1+, 2 V+, 3 C1-, 4 C2+, 5 C2-, 6 V-, 7 T2OUT, 8 R2IN, 9 R2OUT, 10 T2IN, 11 T1IN, 12 R1OUT, 13 R1IN, 14 T1OUT, 15 GND, 16 VCC

## MAX3488
designator U?
footprint SO-8
pins: 1 VCC, 2 RO, 3 DI, 4 GND, 5 (TX+)Y, 6 (TX-)Z, 7 (RX-)B, 8 (RX+)A

## MAX3491
designator U?
footprint SO-14
pins: 1 N.C., 2 RO, 3 /RE, 4 DE, 5 DI, 6 GND, 7 GND, 8 N.C., 9 Y(TX+), 10 Z(TX-), 11 B(RX-), 12 A(RX+), 13 VCC/NC, 14 VCC

## MAX3658
designator U?
footprint T833
pins: 1 VCC, 2 IN, 3 FILT, 4 MON, 5 GND, 6 OUT+, 7 OUT-, 8 GND

## MAX3669-B
designator U?
footprint MAX3669
pins: 1 GND (in), 2 GND (in), 3 DATA+ (in), 4 DATA- (in), 5 -VCC (in), 6 GND (in), 7 Biasmon (in), 8 Modmon (in), 9 Enable (in), 10 -VCC (in), 11 ~{FAIL} (in), 12 N.C. (in), 13 N.C. (in), 14 -VCC (in), 15 GND (in), 16 Bias (in), 17 GND (in), 18 OUT+ (in), 19 OUT- (in), 20 GND (in), 21 -VCC (in), 22 -VCC (in), 23 MD (in), 24 GND (in), 25 CAPC (in), 26 N.C. (in), 27 N.C. (in), 28 N.C. (in), 29 APCset (in), 30 -VCC (in), 31 Modset (in), 32 Biasmax (in)

## MAX3747
designator U?
footprint 10UMAX
pins: 1 DISABLE, 2 IN+, 3 IN-, 4 VREF, 5 TH, 6 GND, 7 LOS, 8 OUT-, 9 OUT+, 10 VCC

## MAX3865
designator U?
footprint ADN8830 - A
pins: 1 VCC, 2 DATA-, 3 DATA+, 4 VDR, 5 VCR, 6 CLK+, 7 CLK-, 8 VCC, 9 GND, 10 RTEN, 11 EN0, 12 EN1, 13 ~{FAIL}, 14 BIASMON, 15 MODMON, 16 GND, 17 BIAS_X, 18 BIAS, 19 VCC, 20 MODN, 21 MODQ, 22 VCC, 23 GND, 24 GND, 25 GND, 26 MD, 27 MD_X, 28 VCC, 29 AMCSET, 30 APCSET, 31 MODMAX, 32 BIASMAX, G Case

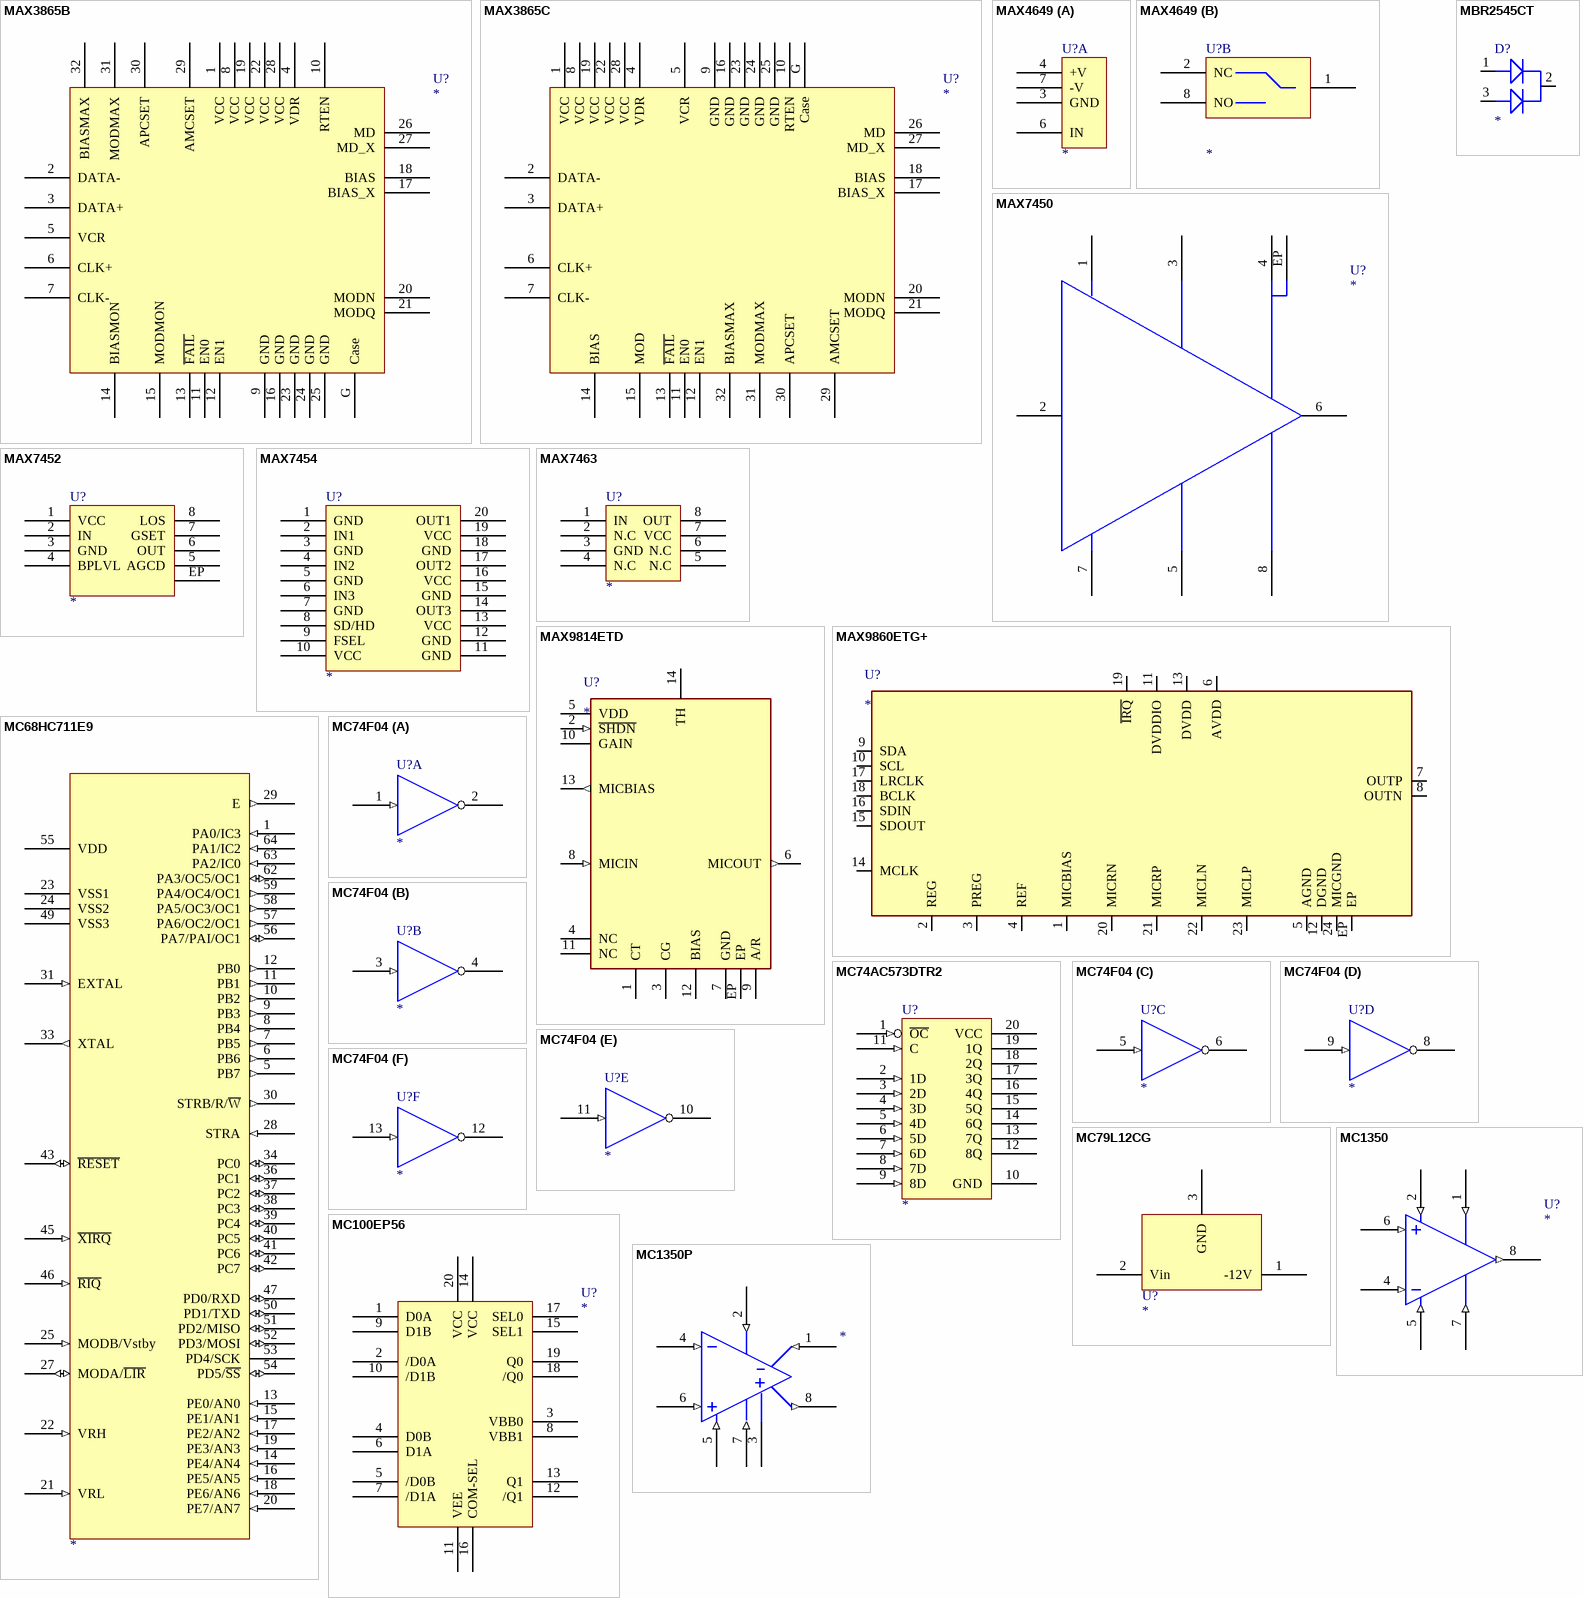
[diagram p40: symbols MAX3865B to MC1350P]

## MAX3865B
designator U?
footprint ADN8830 - A
pins: 1 VCC, 2 DATA-, 3 DATA+, 4 VDR, 5 VCR, 6 CLK+, 7 CLK-, 8 VCC, 9 GND, 10 RTEN, 11 EN0, 12 EN1, 13 ~{FAIL}, 14 BIASMON, 15 MODMON, 16 GND, 17 BIAS_X, 18 BIAS, 19 VCC, 20 MODN, 21 MODQ, 22 VCC, 23 GND, 24 GND, 25 GND, 26 MD, 27 MD_X, 28 VCC, 29 AMCSET, 30 APCSET, 31 MODMAX, 32 BIASMAX, G Case

## MAX3865C
designator U?
footprint ADN8830 - A
pins: 1 VCC, 2 DATA-, 3 DATA+, 4 VDR, 5 VCR, 6 CLK+, 7 CLK-, 8 VCC, 9 GND, 10 RTEN, 11 EN0, 12 EN1, 13 ~{FAIL}, 14 BIAS, 15 MOD, 16 GND, 17 BIAS_X, 18 BIAS, 19 VCC, 20 MODN, 21 MODQ, 22 VCC, 23 GND, 24 GND, 25 GND, 26 MD, 27 MD_X, 28 VCC, 29 AMCSET, 30 APCSET, 31 MODMAX, 32 BIASMAX, G Case

## MAX4649
designator U?
part A pins: 3 GND, 4 +V, 6 IN, 7 -V
part B pins: 1 COM, 2 NC, 8 NO

## MAX7450
designator U?
footprint SO-8-EP
pins: 1, 2, 3, 4, 5, 6, 7, 8, EP

## MAX7452
designator U?
footprint SO-8-EP
pins: 1 VCC, 2 IN, 3 GND, 4 BPLVL, 5 AGCD, 6 OUT, 7 GSET, 8 LOS, EP

## MAX7454
designator U?
footprint TSSOP20
pins: 1 GND, 2 IN1, 3 GND, 4 IN2, 5 GND, 6 IN3, 7 GND, 8 SD/HD, 9 FSEL, 10 VCC, 11 GND, 12 GND, 13 VCC, 14 OUT3, 15 GND, 16 VCC, 17 OUT2, 18 GND, 19 VCC, 20 OUT1

## MAX7463
designator U?
footprint SO-8
pins: 1 IN, 2 N.C, 3 GND, 4 N.C, 5 N.C, 6 N.C, 7 VCC, 8 OUT

## MAX9814ETD
designator U?
footprint SON40P300X300X80-15N
pins: 1 CT, 2 ~{SHDN} (in), 3 CG, 4 NC, 5 VDD (power), 6 MICOUT (out), 7 GND (power), 8 MICIN (in), 9 A/R, 10 GAIN, 11 NC, 12 BIAS, 13 MICBIAS (out), 14 TH, EP (power)

## MAX9860ETG+
designator U?
footprint QFN24
pins: 1 MICBIAS, 2 REG, 3 PREG, 4 REF, 5 AGND, 6 AVDD, 7 OUTP, 8 OUTN, 9 SDA, 10 SCL, 11 DVDDIO, 12 DGND, 13 DVDD, 14 MCLK, 15 SDOUT, 16 SDIN, 17 LRCLK, 18 BCLK, 19 ~{IRQ}, 20 MICRN, 21 MICRP, 22 MICLN, 23 MICLP, 24 MICGND, EP

## MBR2545CT
designator D?
pins: 1 A1, 2 C, 3 A2

## MC68HC711E9
designator ?
pins: 1 PA0/IC3 (in), 5 PB7 (out), 6 PB6 (out), 7 PB5 (out), 8 PB4 (out), 9 PB3 (out), 10 PB2 (out), 11 PB1 (out), 12 PB0 (out), 13 PE0/AN0 (in), 14 PE4/AN4 (in), 15 PE1/AN1 (in), 16 PE5/AN5 (in), 17 PE2/AN2 (in), 18 PE6/AN6 (in), 19 PE3/AN3 (in), 20 PE7/AN7 (in), 21 VRL (in), 22 VRH (in), 23 VSS1 (power), 24 VSS2 (power), 25 MODB/Vstby (in), 27 MODA/~{LIR} (io), 28 STRA (in), 29 E (out), 30 STRB/R/~{W} (out), 31 EXTAL (in), 33 XTAL (out), 34 PC0 (io), 36 PC1 (io), 37 PC2 (io), 38 PC3 (io), 39 PC4 (io), 40 PC5 (io), 41 PC6 (io), 42 PC7 (io), 43 ~{RESET} (io), 45 ~{XIRQ} (in), 46 ~{RIQ} (in), 47 PD0/RXD (io), 49 VSS3 (power), 50 PD1/TXD (io), 51 PD2/MISO (io), 52 PD3/MOSI (io), 53 PD4/SCK, 54 PD5/~{SS} (io), 55 VDD (power), 56 PA7/PAI/OC1 (io), 57 PA6/OC2/OC1 (out), 58 PA5/OC3/OC1 (out), 59 PA4/OC4/OC1 (out), 62 PA3/OC5/OC1 (io), 63 PA2/IC0 (in), 64 PA1/IC2 (in)

## MC74AC573DTR2
designator U?
OCTAL D-TYPE TRANSPARENT LCH 3SO
footprint SO-20
footprint DIP-20
pins: 1 ~{OC} (in), 2 1D (in), 3 2D (in), 4 3D (in), 5 4D (in), 6 5D (in), 7 6D (in), 8 7D (in), 9 8D (in), 10 GND (power), 11 C (in), 12 8Q (hiz), 13 7Q (hiz), 14 6Q (hiz), 15 5Q (hiz), 16 4Q (hiz), 17 3Q (hiz), 18 2Q (hiz), 19 1Q (hiz), 20 VCC (power)
1 alternate drawing of the same symbol

## MC74F04
designator U?
Hex Inverters
footprint SOIC14
footprint DIP14
part A pins: 1 (in), 2, 7 GND (power) hidden to GND, 14 VCC (power) hidden to VCC
part B pins: 3 (in), 4, 7 GND (power) hidden to GND, 14 VCC (power) hidden to VCC
part C pins: 5 (in), 6, 7 GND (power) hidden to GND, 14 VCC (power) hidden to VCC
part D pins: 7 GND (power) hidden to GND, 8, 9 (in), 14 VCC (power) hidden to VCC
part E pins: 7 GND (power) hidden to GND, 10, 11 (in), 14 VCC (power) hidden to VCC
part F pins: 7 GND (power) hidden to GND, 12, 13 (in), 14 VCC (power) hidden to VCC
2 alternate drawings of the same symbol

## MC79L12CG
designator U?
footprint TO39
pins: 1 -12V, 2 Vin, 3 GND

## MC100EP56
designator U?
footprint SO-20WB
pins: 1 D0A, 2 /D0A, 3 VBB0, 4 D0B, 5 /D0B, 6 D1A, 7 /D1A, 8 VBB1, 9 D1B, 10 /D1B, 11 VEE, 12 /Q1, 13 Q1, 14 VCC, 15 SEL1, 16 COM-SEL, 17 SEL0, 18 /Q0, 19 Q0, 20 VCC

## MC1350
designator U?
pins: 1 VCC (in), 2 PLUS V (in), 4 MINUS INPUT (in), 5 MINUS V (in), 6 PLUS INPUT (in), 7 BB (in), 8 OUTPUT (out)

## MC1350P
designator ?
pins: 1 OUT- (in), 2 VCC (in), 3 GND, 4 IN- (in), 5 AGC (in), 6 IN+ (in), 7 GND (in), 8 OUT+ (out)

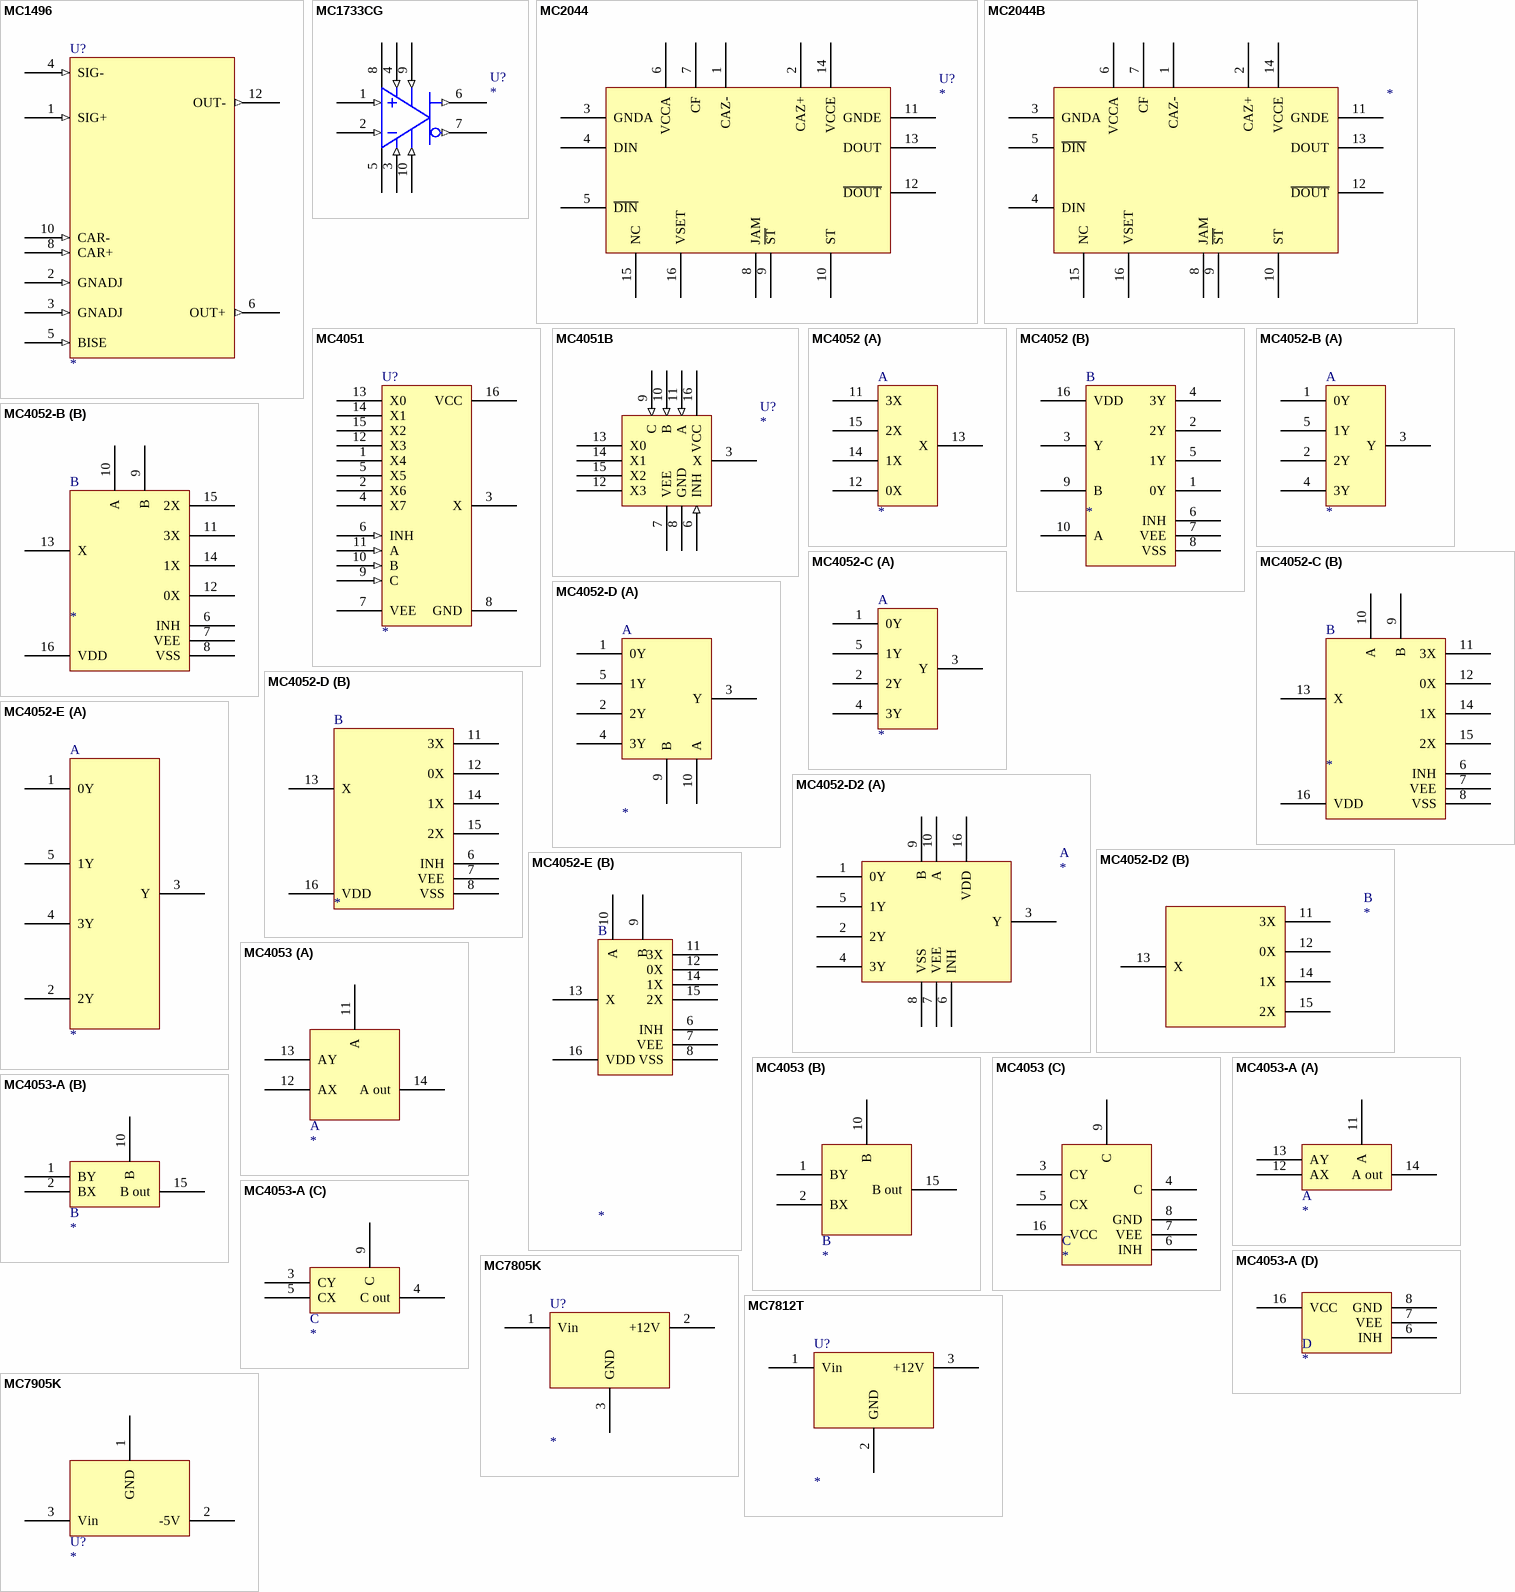
[diagram p41: symbols MC1496 to MC7905K]

## MC1496
designator U?
pins: 1 SIG+ (in), 2 GNADJ (in), 3 GNADJ (in), 4 SIG- (in), 5 BISE (in), 6 OUT+ (out), 8 CAR+ (in), 10 CAR- (in), 12 OUT- (out), 14 VEE (power) hidden to VEE

## MC1733CG
designator U?
pins: 1 INPUT1 (in), 2 INPUT2 (in), 3 GAIN1B (in), 4 GAIN1A (in), 5 VEE, 6 OUT1 (out), 7 OUT2 (out), 8 VCC, 9 GAIN2A (in), 10 GAIN2B (in)

## MC2044
designator U?
footprint SO-16
pins: 1 CAZ-, 2 CAZ+, 3 GNDA, 4 DIN, 5 ~{DIN}, 6 VCCA, 7 CF, 8 JAM, 9 ~{ST}, 10 ST, 11 GNDE, 12 ~{DOUT}, 13 DOUT, 14 VCCE, 15 NC, 16 VSET

## MC2044B
designator ?
pins: 1 CAZ-, 2 CAZ+, 3 GNDA, 4 DIN, 5 ~{DIN}, 6 VCCA, 7 CF, 8 JAM, 9 ~{ST}, 10 ST, 11 GNDE, 12 ~{DOUT}, 13 DOUT, 14 VCCE, 15 NC, 16 VSET

## MC4051
designator U?
footprint DIP16
pins: 1 X4, 2 X6, 3 X, 4 X7, 5 X5, 6 INH (in), 7 VEE, 8 GND (power), 9 C (in), 10 B (in), 11 A (in), 12 X3, 13 X0, 14 X1, 15 X2, 16 VCC (power)

## MC4051B
designator U?
footprint DIP16
pins: 3 X, 6 INH (in), 7 VEE, 8 GND (power), 9 C (in), 10 B (in), 11 A (in), 12 X3, 13 X0, 14 X1, 15 X2, 16 VCC (power)

## MC4052
designator ?
part A pins: 11 3X, 12 0X, 13 X, 14 1X, 15 2X
part B pins: 1 0Y, 2 2Y, 3 Y, 4 3Y, 5 1Y, 6 INH, 7 VEE, 8 VSS, 9 B, 10 A, 16 VDD

## MC4052-B
designator ?
part A pins: 1 0Y, 2 2Y, 3 Y, 4 3Y, 5 1Y
part B pins: 6 INH, 7 VEE, 8 VSS, 9 B, 10 A, 11 3X, 12 0X, 13 X, 14 1X, 15 2X, 16 VDD

## MC4052-C
designator ?
part A pins: 1 0Y, 2 2Y, 3 Y, 4 3Y, 5 1Y
part B pins: 6 INH, 7 VEE, 8 VSS, 9 B, 10 A, 11 3X, 12 0X, 13 X, 14 1X, 15 2X, 16 VDD

## MC4052-D
designator ?
part A pins: 1 0Y, 2 2Y, 3 Y, 4 3Y, 5 1Y, 9 B, 10 A
part B pins: 6 INH, 7 VEE, 8 VSS, 11 3X, 12 0X, 13 X, 14 1X, 15 2X, 16 VDD

## MC4052-D2
designator ?
part A pins: 1 0Y, 2 2Y, 3 Y, 4 3Y, 5 1Y, 6 INH, 7 VEE, 8 VSS, 9 B, 10 A, 16 VDD
part B pins: 11 3X, 12 0X, 13 X, 14 1X, 15 2X

## MC4052-E
designator ?
part A pins: 1 0Y, 2 2Y, 3 Y, 4 3Y, 5 1Y
part B pins: 6 INH, 7 VEE, 8 VSS, 9 B, 10 A, 11 3X, 12 0X, 13 X, 14 1X, 15 2X, 16 VDD

## MC4053
designator ?
part A pins: 11 A, 12 AX, 13 AY, 14 A out
part B pins: 1 BY, 2 BX, 10 B, 15 B out
part C pins: 3 CY, 4 C, 5 CX, 6 INH, 7 VEE, 8 GND, 9 C, 16 VCC

## MC4053-A
designator ?
part A pins: 11 A, 12 AX, 13 AY, 14 A out
part B pins: 1 BY, 2 BX, 10 B, 15 B out
part C pins: 3 CY, 4 C out, 5 CX, 9 C
part D pins: 6 INH, 7 VEE, 8 GND, 16 VCC

## MC7805K
designator U?
footprint TO3
pins: 1 Vin, 2 +12V, 3 GND

## MC7812T
designator U?
footprint TO220
pins: 1 Vin, 2 GND, 3 +12V

## MC7905K
designator U?
footprint TO3
pins: 1 GND, 2 -5V, 3 Vin

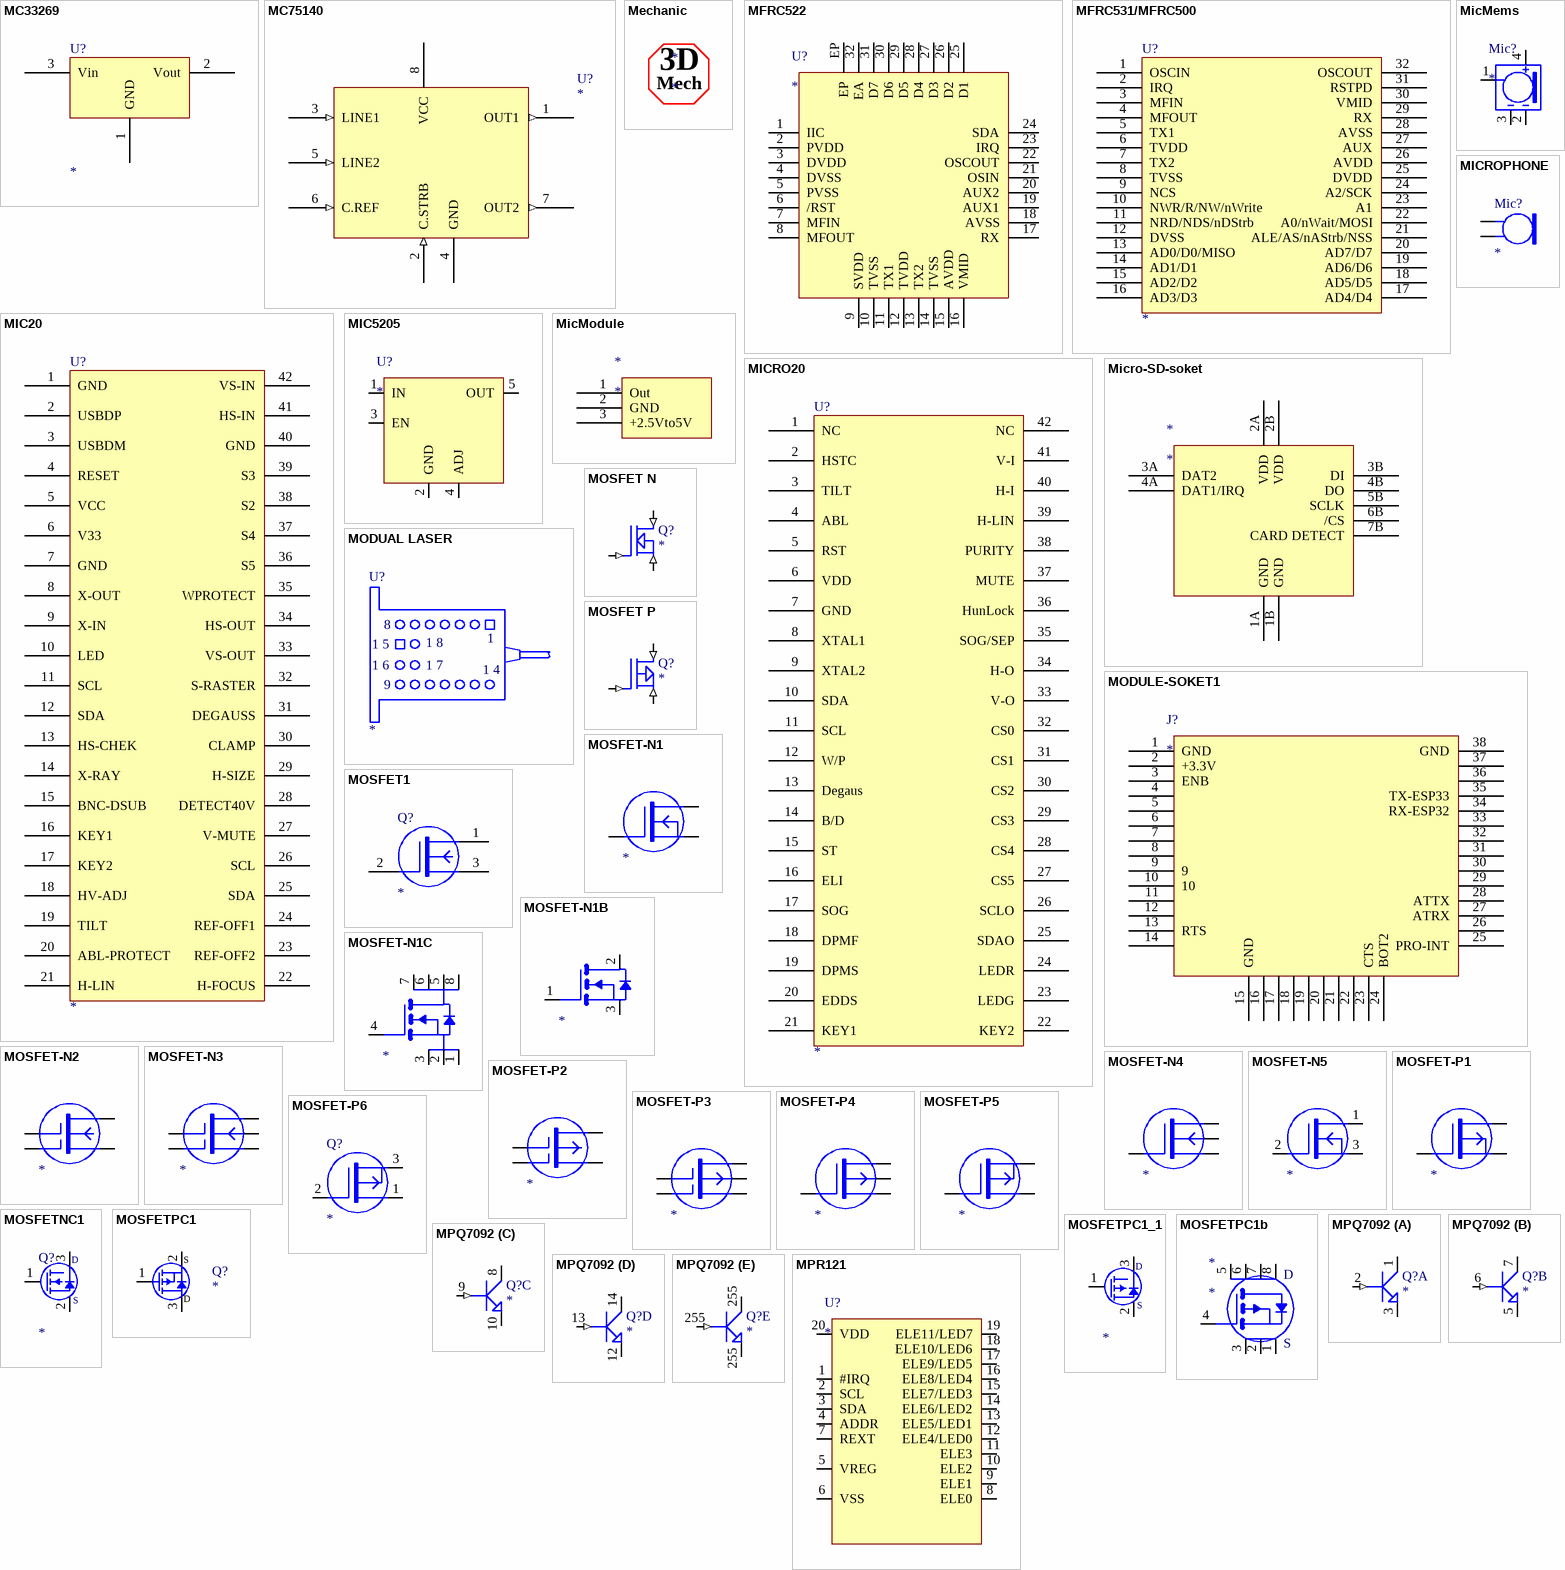
[diagram p42: symbols MC33269 to MPR121]

## MC33269
designator U?
footprint TO-255AA
pins: 1 GND, 2 Vout, 3 Vin

## MC75140
designator U?
pins: 1 OUT1 (out), 2 C.STRB (in), 3 LINE1 (in), 4 GND, 5 LINE2 (in), 6 C.REF (in), 7 OUT2 (out), 8 VCC

## Mechanic
designator *
text: 3D; Mech

## MFRC522
designator U?
footprint QFN32
pins: 1 IIC, 2 PVDD, 3 DVDD, 4 DVSS, 5 PVSS, 6 /RST, 7 MFIN, 8 MFOUT, 9 SVDD, 10 TVSS, 11 TX1, 12 TVDD, 13 TX2, 14 TVSS, 15 AVDD, 16 VMID, 17 RX, 18 AVSS, 19 AUX1, 20 AUX2, 21 OSIN, 22 OSCOUT, 23 IRQ, 24 SDA, 25 D1, 26 D2, 27 D3, 28 D4, 29 D5, 30 D6, 31 D7, 32 EA, EP

## MFRC531/MFRC500
designator U?
footprint SO-32
pins: 1 OSCIN, 2 IRQ, 3 MFIN, 4 MFOUT, 5 TX1, 6 TVDD, 7 TX2, 8 TVSS, 9 NCS, 10 NWR/R/NW/nWrite, 11 NRD/NDS/nDStrb, 12 DVSS, 13 AD0/D0/MISO, 14 AD1/D1, 15 AD2/D2, 16 AD3/D3, 17 AD4/D4, 18 AD5/D5, 19 AD6/D6, 20 AD7/D7, 21 ALE/AS/nAStrb/NSS, 22 A0/nWait/MOSI, 23 A1, 24 A2/SCK, 25 DVDD, 26 AVDD, 27 AUX, 28 AVSS, 29 RX, 30 VMID, 31 RSTPD, 32 OSCOUT

## MIC20
designator U?
footprint DIL42A
pins: 1 GND, 2 USBDP, 3 USBDM, 4 RESET, 5 VCC, 6 V33, 7 GND, 8 X-OUT, 9 X-IN, 10 LED, 11 SCL, 12 SDA, 13 HS-CHEK, 14 X-RAY, 15 BNC-DSUB, 16 KEY1, 17 KEY2, 18 HV-ADJ, 19 TILT, 20 ABL-PROTECT, 21 H-LIN, 22 H-FOCUS, 23 REF-OFF2, 24 REF-OFF1, 25 SDA, 26 SCL, 27 V-MUTE, 28 DETECT40V, 29 H-SIZE, 30 CLAMP, 31 DEGAUSS, 32 S-RASTER, 33 VS-OUT, 34 HS-OUT, 35 WPROTECT, 36 S5, 37 S4, 38 S2, 39 S3, 40 GND, 41 HS-IN, 42 VS-IN

## MIC5205
designator U?
footprint SOT-25
pins: 1 IN, 2 GND, 3 EN, 4 ADJ, 5 OUT

## MicMems
designator Mic?
footprint MicMems
pins: 1, 2, 3, 4

## MicModule
designator *
pins: 1 Out, 2 GND, 3 +2.5Vto5V

## MICRO20
designator U?
footprint DIL42
pins: 1 NC, 2 HSTC, 3 TILT, 4 ABL, 5 RST, 6 VDD, 7 GND, 8 XTAL1, 9 XTAL2, 10 SDA, 11 SCL, 12 W/P, 13 Degaus, 14 B/D, 15 ST, 16 ELI, 17 SOG, 18 DPMF, 19 DPMS, 20 EDDS, 21 KEY1, 22 KEY2, 23 LEDG, 24 LEDR, 25 SDAO, 26 SCLO, 27 CS5, 28 CS4, 29 CS3, 30 CS2, 31 CS1, 32 CS0, 33 V-O, 34 H-O, 35 SOG/SEP, 36 HunLock, 37 MUTE, 38 PURITY, 39 H-LIN, 40 H-I, 41 V-I, 42 NC

## Micro-SD-soket
designator *
pins: 1A GND, 1B GND, 2A VDD, 2B VDD, 3A DAT2, 3B DI, 4A DAT1/IRQ, 4B DO, 5B SCLK, 6B /CS, 7B CARD DETECT

## MICROPHONE
designator Mic?
footprint Model Name (Footprint not found)
pins: 1, 2

## MODUAL LASER
designator U?
text: 8; 1; 1 5; 1 8; 1 6; 1 7; 1 4; 9

## MODULE-SOKET1
designator J?
footprint ESP32M2
pins: 1 GND, 2 +3.3V, 3 ENB, 4, 5, 6, 7, 8, 9, 10, 11, 12, 13 RTS, 14, 15 GND, 16, 17, 18, 19, 20, 21, 22, 23 CTS, 24 BOT2, 25 PRO-INT, 26, 27 ATRX, 28 ATTX, 29, 30, 31, 32, 33, 34 RX-ESP32, 35 TX-ESP33, 36, 37, 38 GND

## MOSFET1
designator Q?
pins: 1 S, 2 G, 3 D

## MOSFET N
designator Q?
pins: DRAIN (in), GATE (in), SOURCE (in)

## MOSFET P
designator Q?
pins: DRAIN (in), GATE (in), SOURCE (in)

## MOSFET-N1
designator ?
pins: 1, 2, 3

## MOSFET-N1B
designator ?
pins: 1, 2, 3

## MOSFET-N1C
designator ?
pins: 1, 2, 3, 4, 5, 6, 7, 8

## MOSFET-N2
designator ?
pins: 1, 2, 3, 4

## MOSFET-N3
designator ?
pins: 1, 2, 3, 4, 5

## MOSFET-N4
designator ?
pins: 1, 2, 3, 4

## MOSFET-N5
designator ?
pins: 1, 2, 3

## MOSFET-P1
designator ?
pins: 1, 2, 3

## MOSFET-P2
designator ?
pins: 1, 2, 3, 4

## MOSFET-P3
designator ?
pins: 1, 2, 3, 4, 5

## MOSFET-P4
designator ?
pins: 1, 2, 3, 4

## MOSFET-P5
designator ?
pins: 1, 2, 3

## MOSFET-P6
designator Q?
pins: 1, 2, 3

## MOSFETNC1
designator Q?
footprint SOT-23
pins: 1, 2, 3
text: D; S

## MOSFETPC1
designator Q?
footprint SMD-23
footprint TO-92
footprint TO-220
pins: 1, 2, 3
text: S; D

## MOSFETPC1_1
designator ?
footprint SOT-23
pins: 1, 2, 3
text: D; S

## MOSFETPC1b
designator *
footprint so-8
pins: 1, 2, 3, 4, 5, 6, 7, 8
text: D; S

## MPQ7092
designator Q?
part A pins: 1 C, 2 B (in), 3 E
part B pins: 5 E, 6 B (in), 7 C
part C pins: 8 C, 9 B (in), 10 E
part D pins: 12 E, 13 B (in), 14 C
part E pins: 255 C, 255 B (in), 255 E

## MPR121
designator U?
pins: 1 #IRQ (io), 2 SCL (io), 3 SDA (io), 4 ADDR (io), 5 VREG (io), 6 VSS (power), 7 REXT (io), 8 ELE0 (io), 9 ELE1 (io), 10 ELE2 (io), 11 ELE3 (io), 12 ELE4/LED0 (io), 13 ELE5/LED1 (io), 14 ELE6/LED2 (io), 15 ELE7/LED3 (io), 16 ELE8/LED4 (io), 17 ELE9/LED5 (io), 18 ELE10/LED6 (io), 19 ELE11/LED7 (io), 20 VDD (power)

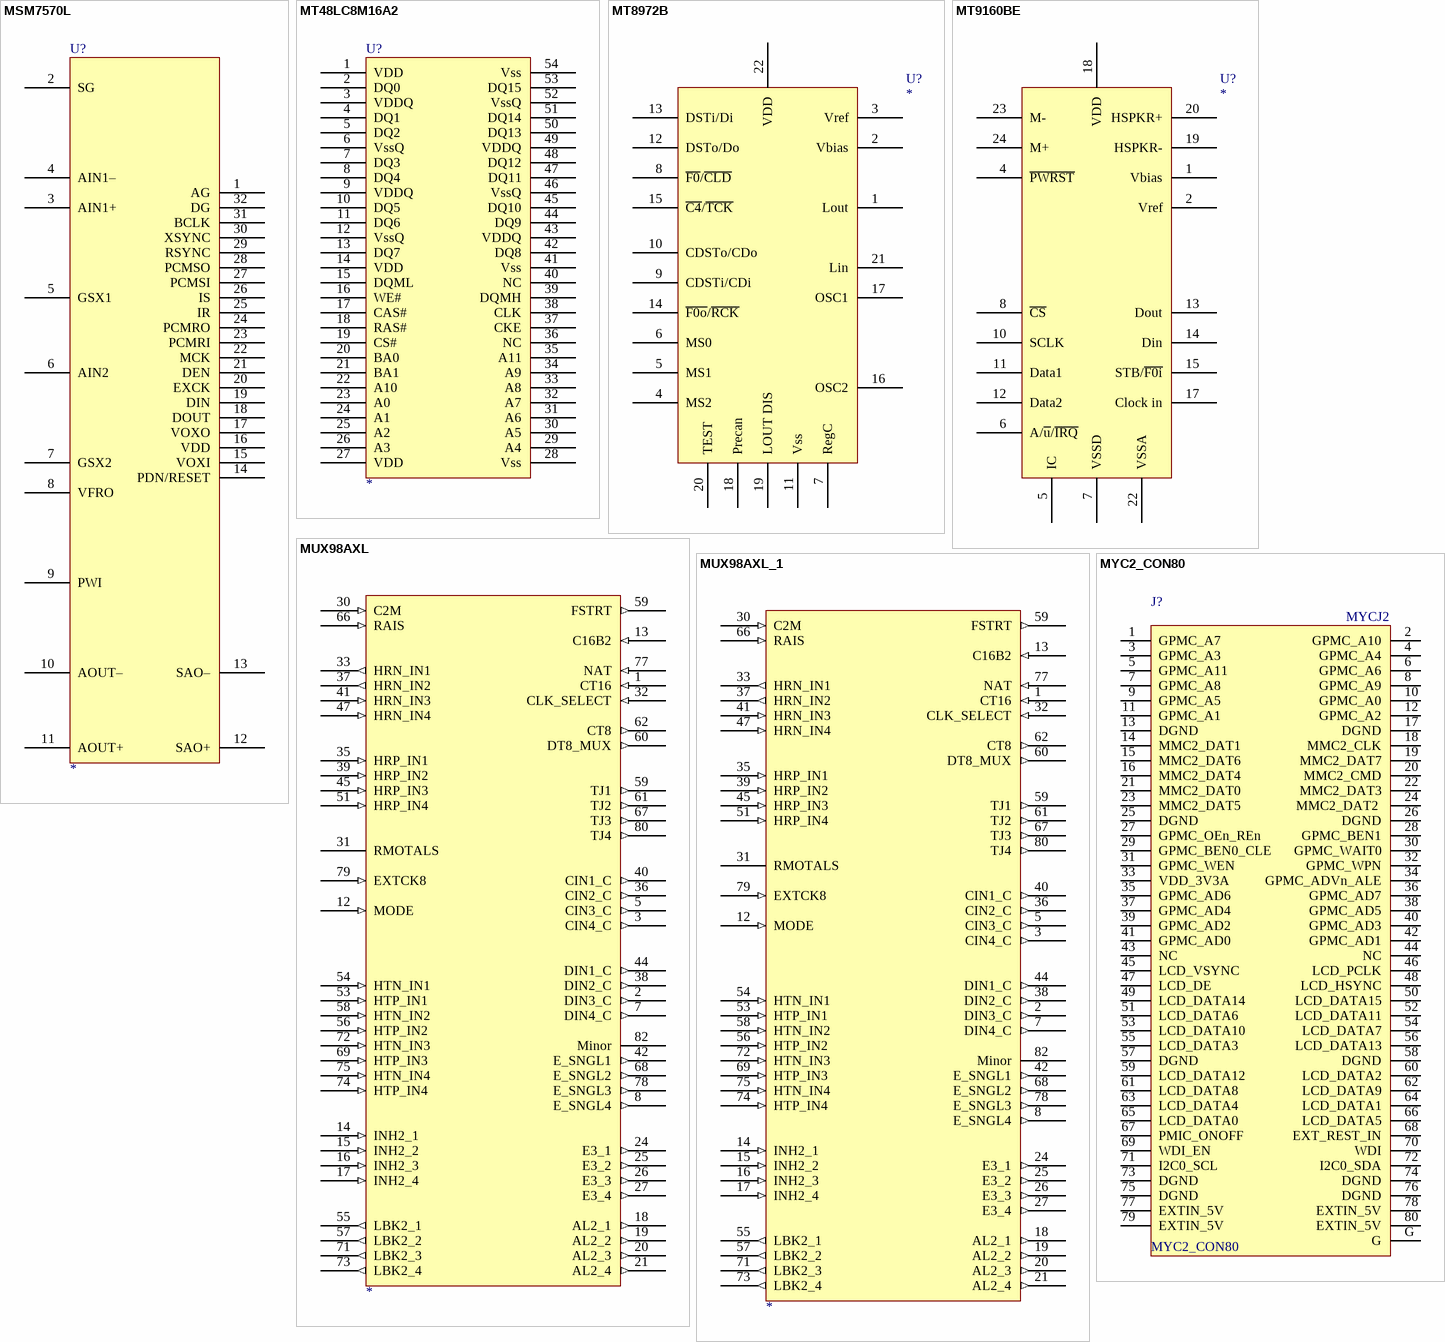
[diagram p43: symbols MSM7570L to MYC2_CON80]

## MSM7570L
designator U?
footprint TSOP32B
pins: 1 AG, 2 SG, 3 AIN1+, 4 AIN1–, 5 GSX1, 6 AIN2, 7 GSX2, 8 VFRO, 9 PWI, 10 AOUT–, 11 AOUT+, 12 SAO+, 13 SAO–, 14 PDN/RESET, 15 VOXI, 16 VDD, 17 VOXO, 18 DOUT, 19 DIN, 20 EXCK, 21 DEN, 22 MCK, 23 PCMRI, 24 PCMRO, 25 IR, 26 IS, 27 PCMSI, 28 PCMSO, 29 RSYNC, 30 XSYNC, 31 BCLK, 32 DG